# Altium schematic symbol library czc.SchLib: 152 symbols (part 1 of 2)
Pins are listed as number, name and electrical type; pins without a type are passive.

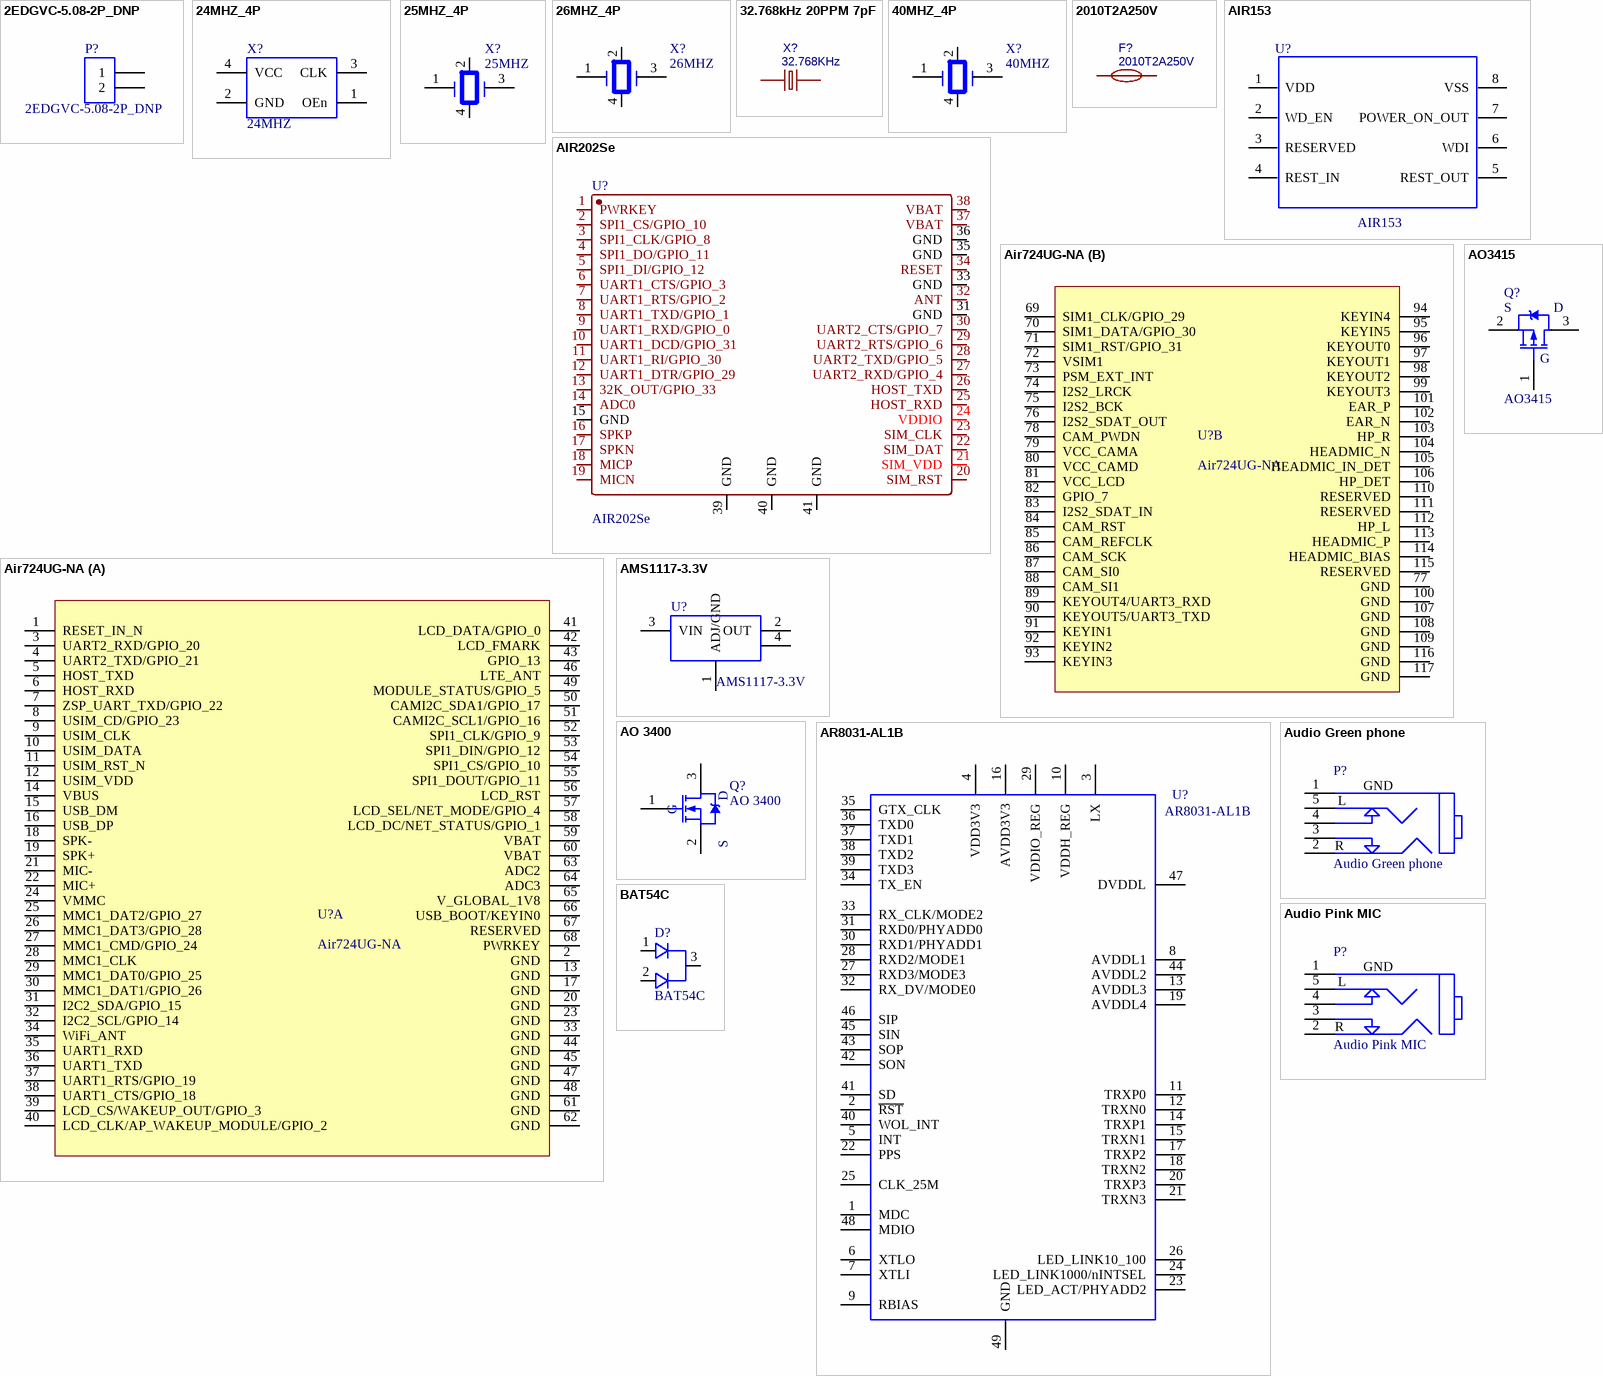
[diagram p0: symbols 2EDGVC-5.08-2P_DNP to BAT54C]

## 2EDGVC-5.08-2P_DNP
designator P?
存货编码: 1120203007; 序号: 1388; 存货名称: 接线端子座; 规格型号: KF2EDGR,2P,5.08mm,L,N; 主计量单位名称: 套; 安全库存: 15; 旧编码: 010402128; 旧规格型号: 2EDGKA立式 间距5.08MM 90度弯针 2P(KA为连接器配套头带卡头); LatestRevisionDate: 17-Jul-2002; LatestRevisionNote: Re-released for DXP Platform.; Publisher: Altium Limited; Value: 2EDGVC-5.08-2P_DNP
signal-integrity model Connector
footprint HEADER 2_5.08_L
pins: 1, 2

## 24MHZ_4P
designator X?, comment 24MHZ
存货编码: 1110601007; 序号: 3406; 存货名称: 贴装晶振; 规格型号: 有源,24MHZ,4P,32*25mm,3.3V,±20ppm; 主计量单位名称: 只; 安全库存: 36203; 旧编码: 010802061; 旧规格型号: 贴装 有源  24MHZ 4P 32*25mm 3.3V; Value: 24MHZ
footprint Crystals_3225
pins: 1 OEn, 2 GND, 3 CLK, 4 VCC

## 25MHZ_4P
designator X?, comment 25MHZ
存货编码: 1110601037; 序号: 3392; 存货名称: 贴装晶振; 规格型号: 无源,25MHZ,4P,32*25mm,±20ppm,20pf; 主计量单位名称: 只; 安全库存: 4461; 旧编码: 010802047; 旧规格型号: 贴装 无源 25MHZ 4P 32*25mm ±20ppm; Value: 25MHZ
footprint Crystals_3225
pins: 1, 2, 3, 4

## 26MHZ_4P
designator X?, comment 26MHZ
存货编码: 1110601021; 序号: 3355; 存货名称: 贴装晶振; 规格型号: 无源,24MHZ,4P,32*25mm,±20ppm,20pf; 主计量单位名称: 只; 安全库存: 17652; 旧编码: 010802010; 旧规格型号: 贴装 无源 24MHZ 4P 32*25mm ±20ppm; Value: 26MHZ
footprint Crystals_3225
pins: 1, 2, 3, 4

## 32.768kHz 20PPM 7pF
designator X?, comment 32.768KHz
BOM_Manufacturer: SEIKO; BOM_Manufacturer Part: SC-32S32.768kHz20PPM7pF; nameAlias: Frequency; BOM_Supplier: LCSC; BOM_Supplier Part: C97604; spicePre: X; spiceSymbolName: SC-32S32.768kHz20PPM7pF
footprint OSC-SMD_L3.2-W1.5
pins: 1, 2

## 40MHZ_4P
designator X?, comment 40MHZ
存货编码: 678; 存货名称: 贴装晶振; 规格型号: 无源,40MHZ,4P,32*25mm,±10ppm,15pf; Value: 40MHZ
footprint Crystals_3225
pins: 1, 2, 3, 4

## 2010T2A250V
designator F?
BOM_Manufacturer: Walter Elec; Contributor: LCSC; BOM_Supplier: LCSC; BOM_Supplier Part: C354902; BOM_Manufacturer Part: 2010T2A250V; spicePre: F; spiceSymbolName: 2010T2A250V
footprint FUSE-TH_L8.5-W4.0-P5.08-D0.6
pins: 1, 2

## AIR153
designator U?
合宙看门狗芯片; Manufacture: ELAN; PCB DECAL: EM78P153B-SOP8; Geometry.Height: 1.75mm
footprint so-8
pins: 1 VDD, 2 WD_EN, 3 RESERVED, 4 REST_IN, 5 REST_OUT, 6 WDI, 7 POWER_ON_OUT, 8 VSS

## AIR202Se
designator U?
合宙2G模块 带SIM卡
footprint AIR202S (Footprint not found)
pins: 1 PWRKEY, 2 SPI1_CS/GPIO_10, 3 SPI1_CLK/GPIO_8, 4 SPI1_DO/GPIO_11, 5 SPI1_DI/GPIO_12, 6 UART1_CTS/GPIO_3, 7 UART1_RTS/GPIO_2, 8 UART1_TXD/GPIO_1, 9 UART1_RXD/GPIO_0, 10 UART1_DCD/GPIO_31, 11 UART1_RI/GPIO_30, 12 UART1_DTR/GPIO_29, 13 32K_OUT/GPIO_33, 14 ADC0, 15 GND, 16 SPKP, 17 SPKN, 18 MICP, 19 MICN, 20 SIM_RST, 21 SIM_VDD, 22 SIM_DAT, 23 SIM_CLK, 24 VDDIO, 25 HOST_RXD, 26 HOST_TXD, 27 UART2_RXD/GPIO_4, 28 UART2_TXD/GPIO_5, 29 UART2_RTS/GPIO_6, 30 UART2_CTS/GPIO_7, 31 GND, 32 ANT, 33 GND, 34 RESET, 35 GND, 36 GND, 37 VBAT, 38 VBAT, 39 GND, 40 GND, 41 GND

## Air724UG-NA
designator U?
合宙4G模块 不带SIM卡
part A pins: 1 RESET_IN_N, 2 GND, 3 UART2_RXD/GPIO_20, 4 UART2_TXD/GPIO_21, 5 HOST_TXD, 6 HOST_RXD, 7 ZSP_UART_TXD/GPIO_22, 8 USIM_CD/GPIO_23, 9 USIM_CLK, 10 USIM_DATA, 11 USIM_RST_N, 12 USIM_VDD, 13 GND, 14 VBUS, 15 USB_DM, 16 USB_DP, 17 GND, 18 SPK-, 19 SPK+, 20 GND, 21 MIC-, 22 MIC+, 23 GND, 24 VMMC, 25 MMC1_DAT2/GPIO_27, 26 MMC1_DAT3/GPIO_28, 27 MMC1_CMD/GPIO_24, 28 MMC1_CLK, 29 MMC1_DAT0/GPIO_25, 30 MMC1_DAT1/GPIO_26, 31 I2C2_SDA/GPIO_15, 32 I2C2_SCL/GPIO_14, 33 GND, 34 WiFi_ANT, 35 UART1_RXD, 36 UART1_TXD, 37 UART1_RTS/GPIO_19, 38 UART1_CTS/GPIO_18, 39 LCD_CS/WAKEUP_OUT/GPIO_3, 40 LCD_CLK/AP_WAKEUP_MODULE/GPIO_2, 41 LCD_DATA/GPIO_0, 42 LCD_FMARK, 43 GPIO_13, 44 GND, 45 GND, 46 LTE_ANT, 47 GND, 48 GND, 49 MODULE_STATUS/GPIO_5, 50 CAMI2C_SDA1/GPIO_17, 51 CAMI2C_SCL1/GPIO_16, 52 SPI1_CLK/GPIO_9, 53 SPI1_DIN/GPIO_12, 54 SPI1_CS/GPIO_10, 55 SPI1_DOUT/GPIO_11, 56 LCD_RST, 57 LCD_SEL/NET_MODE/GPIO_4, 58 LCD_DC/NET_STATUS/GPIO_1, 59 VBAT, 60 VBAT, 61 GND, 62 GND, 63 ADC2, 64 ADC3, 65 V_GLOBAL_1V8, 66 USB_BOOT/KEYIN0, 67 RESERVED, 68 PWRKEY
part B pins: 69 SIM1_CLK/GPIO_29, 70 SIM1_DATA/GPIO_30, 71 SIM1_RST/GPIO_31, 72 VSIM1, 73 PSM_EXT_INT, 74 I2S2_LRCK, 75 I2S2_BCK, 76 I2S2_SDAT_OUT, 77 GND, 78 CAM_PWDN, 79 VCC_CAMA, 80 VCC_CAMD, 81 VCC_LCD, 82 GPIO_7, 83 I2S2_SDAT_IN, 84 CAM_RST, 85 CAM_REFCLK, 86 CAM_SCK, 87 CAM_SI0, 88 CAM_SI1, 89 KEYOUT4/UART3_RXD, 90 KEYOUT5/UART3_TXD, 91 KEYIN1, 92 KEYIN2, 93 KEYIN3, 94 KEYIN4, 95 KEYIN5, 96 KEYOUT0, 97 KEYOUT1, 98 KEYOUT2, 99 KEYOUT3, 100 GND, 101 EAR_P, 102 EAR_N, 103 HP_R, 104 HEADMIC_N, 105 HEADMIC_IN_DET, 106 HP_DET, 107 GND, 108 GND, 109 GND, 110 RESERVED, 111 RESERVED, 112 HP_L, 113 HEADMIC_P, 114 HEADMIC_BIAS, 115 RESERVED, 116 GND, 117 GND

## AMS1117-3.3V
designator U?
存货编码: 1110404008; 序号: 1933; 存货名称: 电源; 规格型号: AMS1117-3.3V,SOT223-3; 主计量单位名称: 片; 安全库存: 1453; 旧编码: 010504010; 旧规格型号: AMS1117-3.3V SOT223-3 (1A); Value: AMS1117-3.3V
footprint SOT_223
pins: 1 ADJ/GND, 2 OUT, 3 VIN, 4

## AO3415
designator Q?
Note: Pin 2 is electrically connected to pin 4.; 存货编码: 1110505002; 序号: 2657; 存货名称: 场效应管; 规格型号: AO3415,SOT-23-3,P沟道; 主计量单位名称: 只; 安全库存: 6671; 旧编码: 010605001; 旧规格型号: P沟道 AO 3415 SOT-23-3; Published: 8-Jun-2000; LatestRevisionDate: 17-Jul-2002; LatestRevisionNote: Re-released for DXP Platform.; DatasheetVersion: PD-9.814; PackageVersion: Feb-1997; PackageReference: TO-220AB; Publisher: Altium Limited; PackageDescription: TO, Thru-Hole, Vertical, Heatsink Mounted; 3 In-Line Leads; Pitch 2.54 mm; ComponentLink1Description: Manufacturer Link; ComponentLink1URL: http://www.irf.com/; VALUE: AO3415
simulation model IRF1010 (Spice Subcircuit)
footprint SOT_233_W
pins: 1 G, 2 S, 3 D

## AO 3400
designator Q?
Note: Pin 2 is electrically connected to pin 4.; 存货编码: 1110505011; 序号: 2666; 存货名称: 场效应管; 规格型号: AO3400,SOT23,N沟道; 主计量单位名称: 只; 安全库存: 1346; 旧编码: 010605010; 旧规格型号: N沟道 AO 3400 SOT23; Published: 8-Jun-2000; LatestRevisionDate: 17-Jul-2002; LatestRevisionNote: Re-released for DXP Platform.; DatasheetVersion: PD-9.814; PackageVersion: Feb-1997; PackageReference: TO-220AB; Publisher: Altium Limited; PackageDescription: TO, Thru-Hole, Vertical, Heatsink Mounted; 3 In-Line Leads; Pitch 2.54 mm; VALUE: AO 3400
simulation model IRF1010 (Spice Subcircuit)
footprint SOT_233_W
pins: 1 G, 2 S, 3 D

## AR8031-AL1B
designator U?
存货编码: 1110405175; 序号: 2382; 存货名称: 集成电路; 规格型号: AR8031-AL1B QFN48（工业级）; 主计量单位名称: 片; 安全库存: 1608.00; 旧编码: 010510051; VALUE: AR8031-AL1B; 启用日期: 2013/1/1
footprint QFN48P_0.4BSC_6*6_H(8031)
pins: 1 MDC, 2 ~{RST}, 3 LX, 4 VDD3V3, 5 INT, 6 XTLO, 7 XTLI, 8 AVDDL1, 9 RBIAS, 10 VDDH_REG, 11 TRXP0, 12 TRXN0, 13 AVDDL3, 14 TRXP1, 15 TRXN1, 16 AVDD3V3, 17 TRXP2, 18 TRXN2, 19 AVDDL4, 20 TRXP3, 21 TRXN3, 22 PPS, 23 LED_ACT/PHYADD2, 24 LED_LINK1000/nINTSEL, 25 CLK_25M, 26 LED_LINK10_100, 27 RXD3/MODE3, 28 RXD2/MODE1, 29 VDDIO_REG, 30 RXD1/PHYADD1, 31 RXD0/PHYADD0, 32 RX_DV/MODE0, 33 RX_CLK/MODE2, 34 TX_EN, 35 GTX_CLK, 36 TXD0, 37 TXD1, 38 TXD2, 39 TXD3, 40 WOL_INT, 41 SD, 42 SON, 43 SOP, 44 AVDDL2, 45 SIN, 46 SIP, 47 DVDDL, 48 MDIO, 49 GND

## Audio Green phone
designator P?
存货编码: 1120202009; 序号: 1282; 存货名称: 插装音频座; 规格型号: PJ325C,5脚,绿色; 主计量单位名称: 个; 安全库存: 278; 旧编码: 010402022; 旧规格型号: 插装  绿色 PJ325C 5脚; Value: Audio Green phone
footprint PHONEJACK SW
pins: 1 GND, 2 R, 3, 4, 5 L

## Audio Pink MIC
designator P?
存货编码: 1120202007; 序号: 1280; 存货名称: 插装音频座; 规格型号: PJ325C,5脚,粉色; 主计量单位名称: 个; 安全库存: 273; 旧编码: 010402020; 旧规格型号: 插装  粉色 PJ325C 5脚; Value: Audio Pink MIC
footprint PHONEJACK SW
pins: 1 GND, 2 R, 3, 4, 5 L

## BAT54C
designator D?
存货编码: 1110501005; 序号: 2485; 存货名称: 双肖特基二极管; 规格型号: BAT54C,SOT-23-3; 安全库存: 3634; 旧编码: 010601007; 旧规格型号: BAT54C，SOT-23-3; Value: BAT54C
footprint SOT_233_N
pins: 1, 2, 3

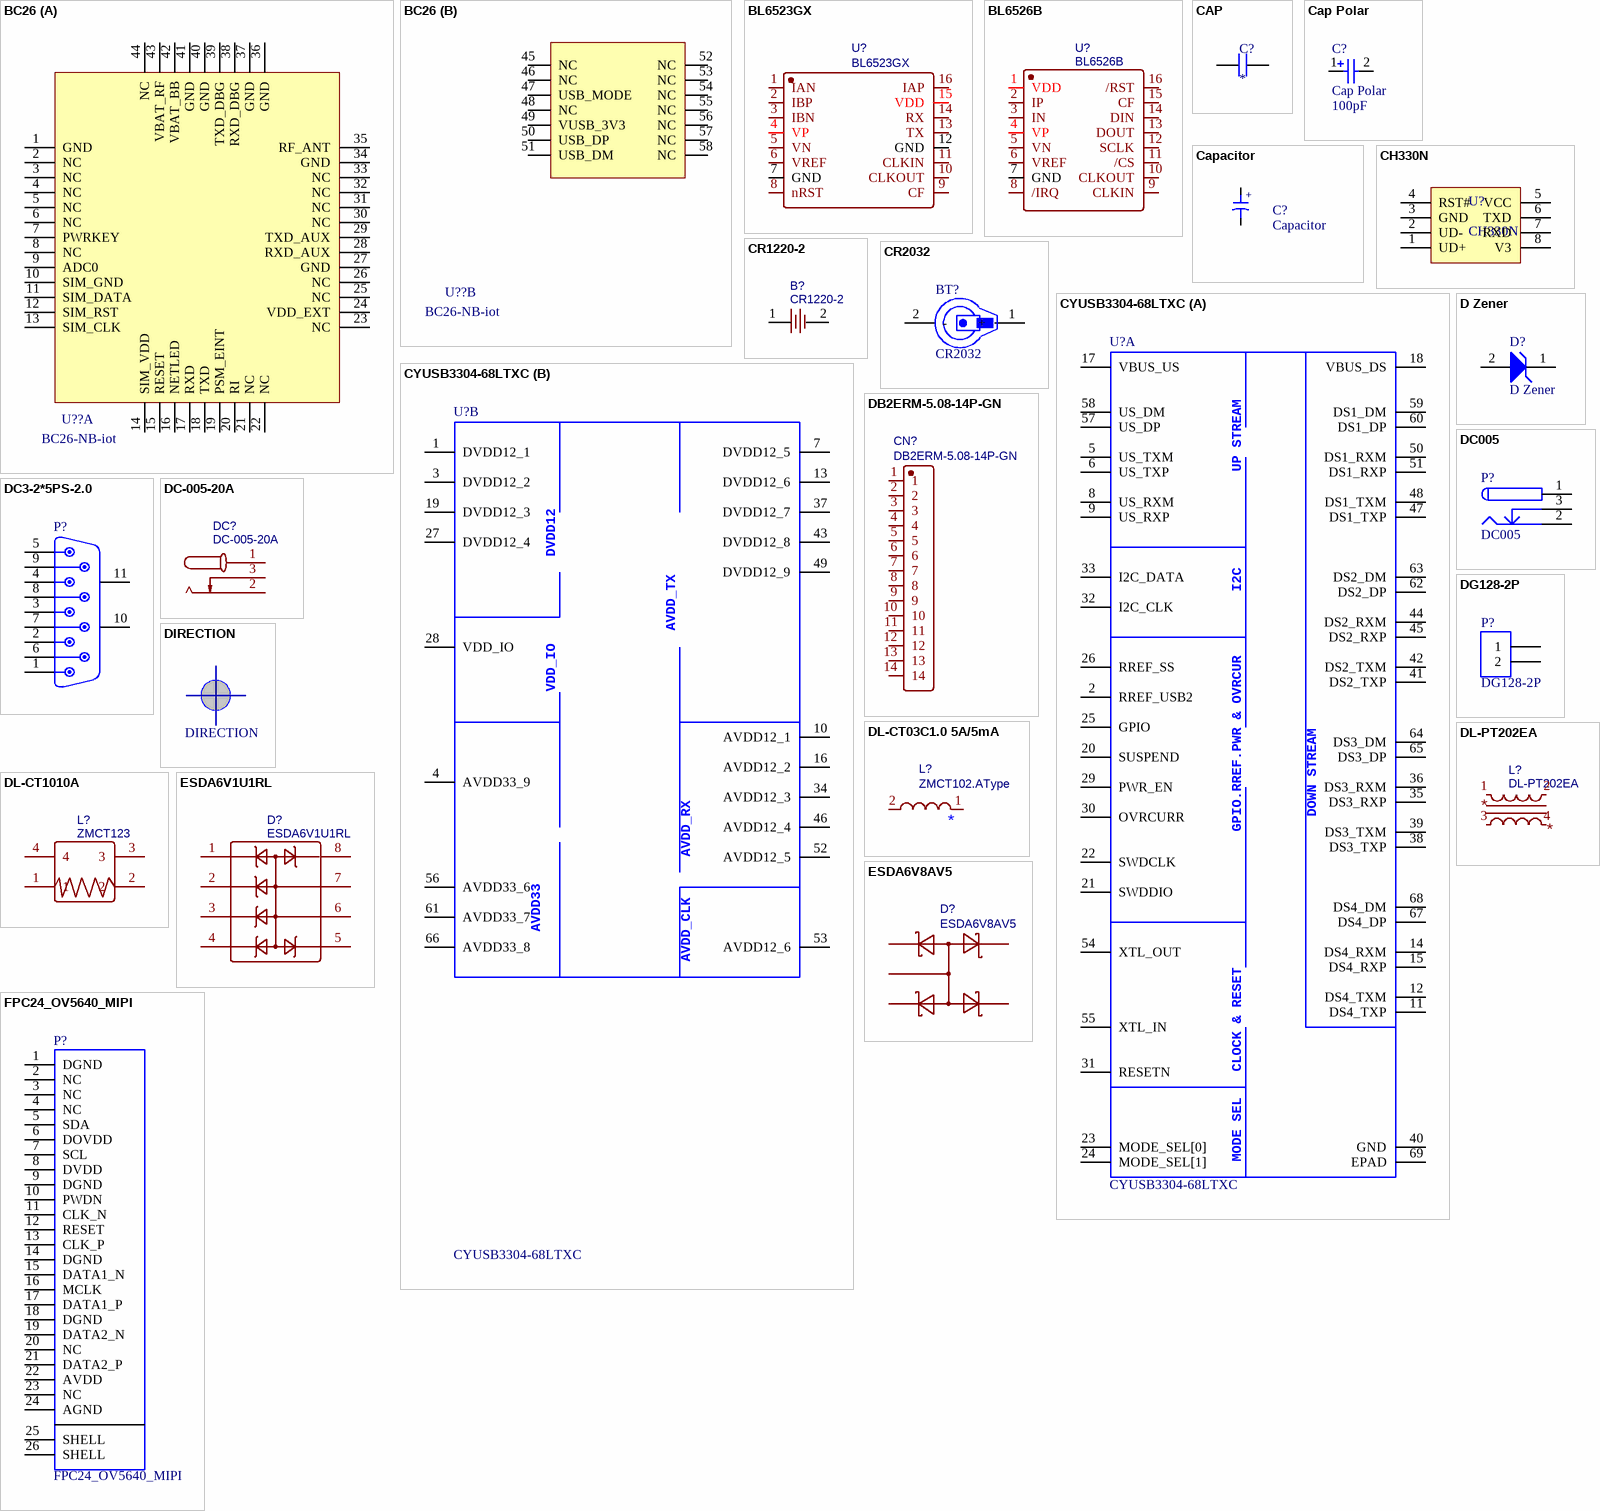
[diagram p1: symbols BC26 to FPC24_OV5640_MIPI]

## BC26
designator U??, comment BC26-NB-iot
footprint BC26
part A pins: 1 GND, 2 NC, 3 NC, 4 NC, 5 NC, 6 NC, 7 PWRKEY, 8 NC, 9 ADC0, 10 SIM_GND, 11 SIM_DATA, 12 SIM_RST, 13 SIM_CLK, 14 SIM_VDD, 15 RESET, 16 NETLED, 17 RXD, 18 TXD, 19 PSM_EINT, 20 RI, 21 NC, 22 NC, 23 NC, 24 VDD_EXT, 25 NC, 26 NC, 27 GND, 28 RXD_AUX, 29 TXD_AUX, 30 NC, 31 NC, 32 NC, 33 NC, 34 GND, 35 RF_ANT, 36 GND, 37 GND, 38 RXD_DBG, 39 TXD_DBG, 40 GND, 41 GND, 42 VBAT_BB, 43 VBAT_RF, 44 NC
part B pins: 45 NC, 46 NC, 47 USB_MODE, 48 NC, 49 VUSB_3V3, 50 USB_DP, 51 USB_DM, 52 NC, 53 NC, 54 NC, 55 NC, 56 NC, 57 NC, 58 NC

## BL6523GX
designator U?
BOM_Manufacturer: Shanghai Belling; Contributor: LCSC; SMT Type: Extend; BOM_Supplier: LCSC; BOM_Supplier Part: C213392; BOM_Manufacturer Part: BL6523GX; BOM_JLCPCB SMD: Yes; spicePre: U; spiceSymbolName: BL6523GX
footprint SOP-16_L10.3-W5.4-P1.27-LS7.8-BL
pins: 1 IAN, 2 IBP, 3 IBN, 4 VP, 5 VN, 6 VREF, 7 GND, 8 nRST, 9 CF, 10 CLKOUT, 11 CLKIN, 12 GND, 13 TX, 14 RX, 15 VDD, 16 IAP

## BL6526B
designator U?
BOM_Manufacturer: BL; Contributor: LCSC; SMT Type: Extend; BOM_Supplier: LCSC; BOM_Manufacturer Part: BL6526B; BOM_Supplier Part: C177781; BOM_LCSC Assembly: Yes; spicePre: U; spiceSymbolName: BL6526B
footprint SOP-16_L10.0-W3.9-P1.27-LS6.0-BL
pins: 1 VDD, 2 IP, 3 IN, 4 VP, 5 VN, 6 VREF, 7 GND, 8 /IRQ, 9 CLKIN, 10 CLKOUT, 11 /CS, 12 SCLK, 13 DOUT, 14 DIN, 15 CF, 16 /RST

## CAP
designator C?
电容
pins: 1, 2

## Cap Polar
designator C?  value 100pF
极性电容; Published: 8-Jun-2000; LatestRevisionDate: 17-Jul-2002; LatestRevisionNote: Re-released for DXP Platform.; PackageReference: RB7.6-15; Publisher: Altium Limited; PackageDescription: Polarized Capacitor (Radial); 2 Leads
footprint RB7.6-15 (Polarized Capacitor (Radial); 2 Leads)
simulation model CAP (Capacitor)
signal-integrity model Cap Pol
pins: 1, 2
1 alternate drawing of the same symbol

## Capacitor
designator C?
电解电容
pins: 1, 2
text: +

## CH330N
designator U?
串口转USB芯片
pins: 1 UD+, 2 UD-, 3 GND, 4 RST#, 5 VCC, 6 TXD, 7 RXD, 8 V3

## CR1220-2
designator B?
BOM_Manufacturer: Q&J; BOM_Supplier: LCSC; BOM_Manufacturer Part: CR1220-2; image: //image.lceda.cn/szlcsc/C70381.jpg; BOM_Supplier Part: C70381; spicePre: B; spiceSymbolName: CR1220-2
footprint BAT-SMD_CR1220-2
pins: 1, 2

## CR2032
designator BT?
存货编码: 1120202003; 序号: 1158; 存货名称: 插装电池座; 规格型号: CR2032-BS-2-1; 安全库存: 1051; 旧编码: 010401038; 旧规格型号: 插装 CR2032 BS-2-1; Value: CR2032
footprint BAT_CR2032
pins: 1 +, 2 -

## CYUSB3304-68LTXC
designator U?
footprint QFN40P800X800X100_HS-69N (QFN, 68-Leads, Body 8.00x8.00mm, Pitch 0.40mm, Thermal Pad 5.10x5.10mm, IPC Medium Density)
part A pins: 2 RREF_USB2, 5 US_TXM, 6 US_TXP, 8 US_RXM, 9 US_RXP, 11 DS4_TXP, 12 DS4_TXM, 14 DS4_RXM, 15 DS4_RXP, 17 VBUS_US, 18 VBUS_DS, 20 SUSPEND, 21 SWDDIO, 22 SWDCLK, 23 MODE_SEL[0], 24 MODE_SEL[1], 25 GPIO, 26 RREF_SS, 29 PWR_EN, 30 OVRCURR, 31 RESETN, 32 I2C_CLK, 33 I2C_DATA, 35 DS3_RXP, 36 DS3_RXM, 38 DS3_TXP, 39 DS3_TXM, 40 GND, 41 DS2_TXP, 42 DS2_TXM, 44 DS2_RXM, 45 DS2_RXP, 47 DS1_TXP, 48 DS1_TXM, 50 DS1_RXM, 51 DS1_RXP, 54 XTL_OUT, 55 XTL_IN, 57 US_DP, 58 US_DM, 59 DS1_DM, 60 DS1_DP, 62 DS2_DP, 63 DS2_DM, 64 DS3_DM, 65 DS3_DP, 67 DS4_DP, 68 DS4_DM, 69 EPAD
part B pins: 1 DVDD12_1, 3 DVDD12_2, 4 AVDD33_9, 7 DVDD12_5, 10 AVDD12_1, 13 DVDD12_6, 16 AVDD12_2, 19 DVDD12_3, 27 DVDD12_4, 28 VDD_IO, 34 AVDD12_3, 37 DVDD12_7, 43 DVDD12_8, 46 AVDD12_4, 49 DVDD12_9, 52 AVDD12_5, 53 AVDD12_6, 56 AVDD33_6, 61 AVDD33_7, 66 AVDD33_8
part A text: UP STREAM; I2C; DOWN STREAM; GPIO.RREF.PWR & OVRCUR; CLOCK & RESET; MODE SEL
part B text: DVDD12; AVDD_TX; AVDD_RX; AVDD33; AVDD_CLK

## D Zener
designator D?
稳压二极管; Published: 8-Jun-2000; LatestRevisionDate: 17-Jul-2002; LatestRevisionNote: Re-released for DXP Platform.; PackageReference: DIODE-0.7; Publisher: Altium Limited; PackageDescription: Diode, Thru-Hole; 2 Leads; 0.7 in Pin Spacing
footprint DIODE-0.7 (Diode, Thru-Hole; 2 Leads; 0.7 in Pin Spacing)
simulation model ZENER (Diode)
signal-integrity model D Zener
pins: 1, 2

## DB2ERM-5.08-14P-GN
designator CN?
BOM_Manufacturer: DIBO; Contributor: LCSC; BOM_Supplier: LCSC; BOM_Supplier Part: C430534; BOM_Manufacturer Part: DB2ERM-5.08-14P-GN; BOM_JLCPCB Part Class: Extended Part; spicePre: C; spiceSymbolName: DB2ERM-5.08-14P-GN
footprint CONN-TH_14P-P5.08_DB2ERM-5.08-14P-GN
pins: 1, 2, 3, 4, 5, 6, 7, 8, 9, 10, 11, 12, 13, 14

## DC3-2*5PS-2.0
designator P?, comment DB9 male  (value not drawn)
PackageDocument: O; Positions: 9; Gender: Receptacle; 存货编码: 1120202016; 序号: 1291; 存货名称: 插装串口座; 规格型号: DB9,公座,单层,黑色; 安全库存: 552; 旧编码: 010402031; 旧规格型号: DB9，公头，单层，黑色; Published: 15-Jun-2001; LatestRevisionDate: 17-Jul-2002; LatestRevisionNote: Re-released for DXP Platform.; DatasheetDocument: 1-Sep-1999; PackageReference: 788750; Publisher: Altium Limited; Orientation: Right Angle; Value: DB9 male
signal-integrity model Connector
footprint DB9_MALE
pins: 1, 2, 3, 4, 5, 6, 7, 8, 9, 10 MH1, 11 MH2

## DC005
designator P?
存货编码: 1120202010; 序号: 1283; 存货名称: 插装电源座; 规格型号: DC005,2.1mm,耐高温; 安全库存: 1009; 旧编码: 010402023; 旧规格型号: 插装 DC005 2.1mm 耐高温; Value: DC005
footprint JACK_2.5MM_B
pins: 1 ADJ, 2 ADJ, 3 ADJ

## DC-005-20A
designator DC?
BOM_Manufacturer: HRO; Contributor: LCSC; BOM_Supplier: LCSC; BOM_Manufacturer Part: DC-005-20A; BOM_Supplier Part: C130239; spicePre: D; spiceSymbolName: DC-005-20A
footprint DC-IN-TH_DC005
pins: 1, 2, 3

## DG128-2P
designator P?
存货编码: 1120203002; 序号: 1300; 存货名称: 接线端子; 规格型号: G128,2p,5mm,绿色; 主计量单位名称: 个; 安全库存: 127; 旧编码: 010402040; 旧规格型号: 5mm，2p，G128，绿色; LatestRevisionDate: 17-Jul-2002; LatestRevisionNote: Re-released for DXP Platform.; Publisher: Altium Limited; Value: DG128-2P
signal-integrity model Connector
footprint HEADER 2_5.0_DG128
pins: 1, 2

## DIRECTION
designator M?
序号: 34; 存货编码: 0; 旧编码: MHOLE; Value: DIRECTION; 安全库存: 0
footprint MARK_DIRECTION

## DL-CT03C1.0 5A/5mA
designator L?, comment ZMCT102.AType
BOM_Manufacturer: ZEMING; nameAlias: Value; SMT Type: Extend; BOM_Supplier: LCSC; BOM_Manufacturer Part: ZMCT102; BOM_Supplier Part: C84213; BOM_JLCPCB SMD: Yes; spicePre: L; spiceSymbolName: ZMCT102
footprint XFMR-TH_ZMCT102
pins: 1, 2

## DL-CT1010A
designator L?, comment ZMCT123
BOM_Manufacturer: ZEMING; Contributor: LCSC; SMT Type: Extend; BOM_Supplier: LCSC; BOM_Manufacturer Part: ZMCT123; BOM_Supplier Part: C155201; BOM_JLCPCB SMD: Yes; spicePre: L; spiceSymbolName: ZMCT123
footprint XFMR-TH_ZMCT123
pins: 1, 2, 3, 4

## DL-PT202EA
designator L?
BOM_Manufacturer: ZEMING; BOM_Manufacturer Part: ZMPT107-1; nameAlias: Value; BOM_Supplier: LCSC; BOM_Supplier Part: C125191; spicePre: L; spiceSymbolName: ZMPT107-1
footprint XFMR-TH_ZMPT107-1
pins: 1, 2, 3, 4

## ESDA6V1U1RL
designator D?
BOM_Manufacturer: STMicroelectronics; Contributor: LCSC; SMT Type: Extend; BOM_Supplier: LCSC; BOM_Manufacturer Part: ESDA6V1U1RL; BOM_Supplier Part: C118278; BOM_LCSC Assembly: Yes; spicePre: D; spiceSymbolName: ESDA6V1U1RL
footprint SO-8_L4.9-W3.9-P1.27-LS5.9-BL
pins: 1 I/O1, 2 I/O2, 3 I/O3, 4 I/O4, 5 I/O5, 6 GND, 7 GND, 8 I/O6

## ESDA6V8AV5
designator D?
BOM_Manufacturer: Will Semicon; Contributor: LCSC; BOM_Paste Type: expand; BOM_Assembly Type: smtWeld; BOM_Supplier: LCSC; BOM_Supplier Part: C268741; BOM_Manufacturer Part: ESDA6V8AV5; spicePre: D; spiceSymbolName: ESDA6V8AV5
footprint SOT-553-5_L1.6-W1.2-P0.50-LS1.6-BR
pins: 1 I/O1, 2 GND, 3 I/O2, 4 I/O3, 5 I/O4

## FPC24_OV5640_MIPI
designator P?
010401010; 序号: 50; 存货编码: 1120103007; 存货名称: FPC座; 规格型号: 24P,0.5mm,下接翻盖; 安全库存: 152.00; Value: FPC24_OV5640_MIPI; 旧编码: 010401010
footprint FPC24
pins: 1 DGND, 2 NC, 3 NC, 4 NC, 5 SDA, 6 DOVDD, 7 SCL, 8 DVDD, 9 DGND, 10 PWDN, 11 CLK_N, 12 RESET, 13 CLK_P, 14 DGND, 15 DATA1_N, 16 MCLK, 17 DATA1_P, 18 DGND, 19 DATA2_N, 20 NC, 21 DATA2_P, 22 AVDD, 23 NC, 24 AGND, 25 SHELL, 26 SHELL

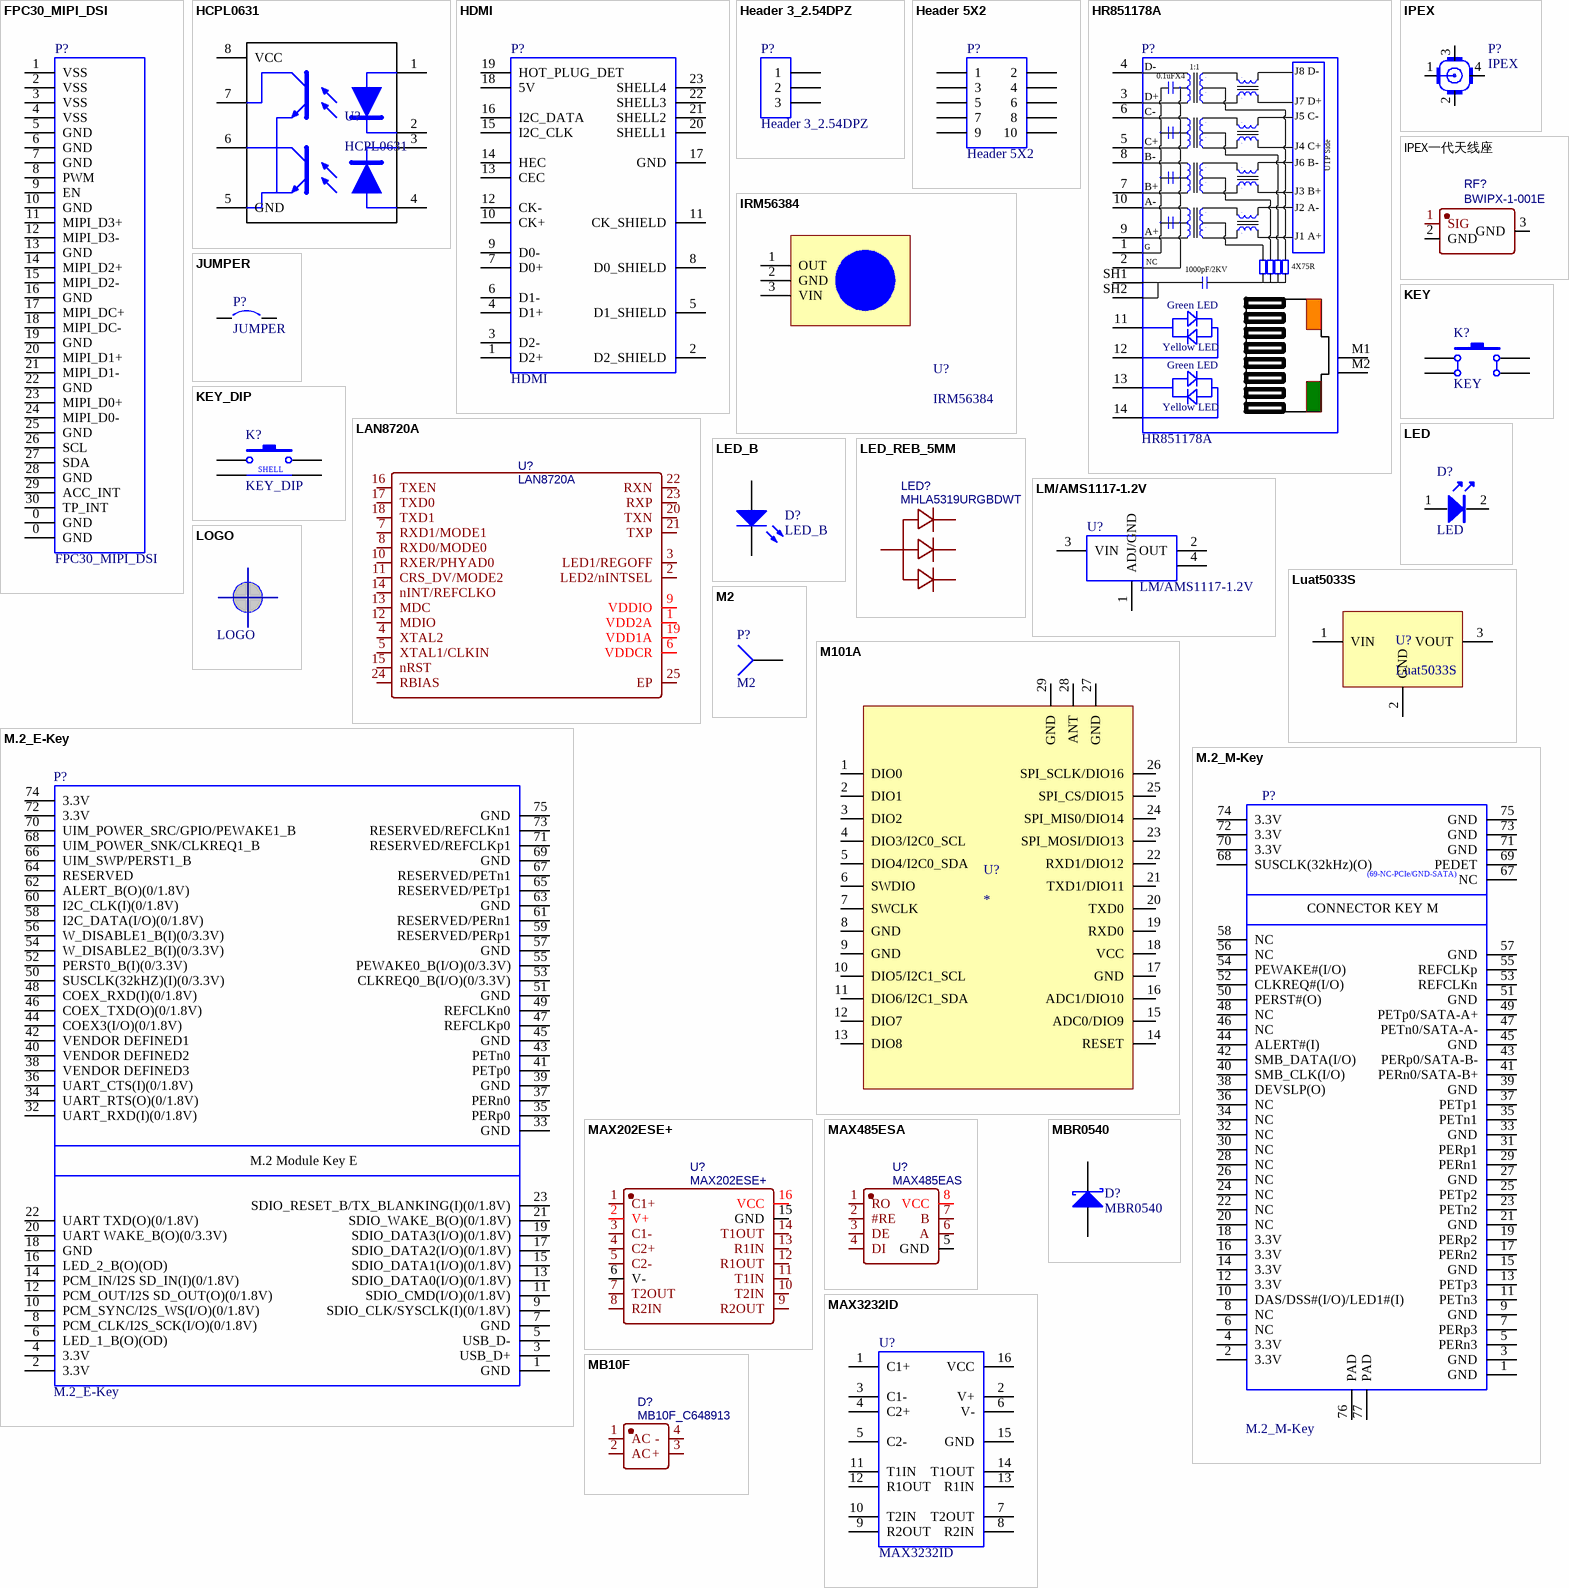
[diagram p2: symbols FPC30_MIPI_DSI to MBR0540]

## FPC30_MIPI_DSI
designator P?
010401065; 序号: 53; 存货编码: 1120103013; 存货名称: FPC座; 规格型号: 30P,0.5mm,下接翻盖; 安全库存: 390.00; Value: FPC30_MIPI_DSI; 旧编码: 010401065
footprint FPC30
pins: 0 GND, 0 GND, 1 VSS, 2 VSS, 3 VSS, 4 VSS, 5 GND, 6 GND, 7 GND, 8 PWM, 9 EN, 10 GND, 11 MIPI_D3+, 12 MIPI_D3-, 13 GND, 14 MIPI_D2+, 15 MIPI_D2-, 16 GND, 17 MIPI_DC+, 18 MIPI_DC-, 19 GND, 20 MIPI_D1+, 21 MIPI_D1-, 22 GND, 23 MIPI_D0+, 24 MIPI_D0-, 25 GND, 26 SCL, 27 SDA, 28 GND, 29 ACC_INT, 30 TP_INT

## HCPL0631
designator U?
光耦
pins: 1, 2, 3, 4, 5 GND, 6, 7, 8 VCC

## HDMI
designator P?
存货编码: 1120202041; 序号: 1427; 存货名称: 插装HDMI座; 规格型号: A型; 描述栏信息: FCI生产编号：10029449,001RLF / ，与1120202030通用; 主计量单位名称: 个; 安全库存: 313; 旧编码: 010402167; 旧规格型号: A型 FCI生产编号：10029449-001RLF; Value: HDMI
footprint HDMI
pins: 1 D2+, 2 D2_SHIELD, 3 D2-, 4 D1+, 5 D1_SHIELD, 6 D1-, 7 D0+, 8 D0_SHIELD, 9 D0-, 10 CK+, 11 CK_SHIELD, 12 CK-, 13 CEC, 14 HEC, 15 I2C_CLK, 16 I2C_DATA, 17 GND, 18 5V, 19 HOT_PLUG_DET, 20 SHELL1, 21 SHELL2, 22 SHELL3, 23 SHELL4

## Header 3_2.54DPZ
designator P?
序号: 40; 存货编码: 1120201017; 存货名称: 插装插针; 规格型号: 单排,40P,2.54mm,S,方针; 安全库存: 260.35; 旧编码: 010402011; LatestRevisionDate: 17-Jul-2002; LatestRevisionNote: Re-released for DXP Platform.; Publisher: Altium Limited; Value: Header 3_2.54DPZ
signal-integrity model Connector
footprint HEADER 3_2.54_DPZ
pins: 1, 2, 3

## Header 5X2
designator P?
存货编码: 1120101022; 序号: 1257; 存货名称: 贴装插针; 规格型号: 双排,2*5P,1.27mm间距; 安全库存: 150; 旧编码: 010401148; 旧规格型号: 贴装 2*5Pin 排针 1.27mm间距; LatestRevisionDate: 17-Jul-2002; LatestRevisionNote: Re-released for DXP Platform.; Publisher: Altium Limited; Value: Header 5X2
signal-integrity model Connector
footprint HEADER5*2_1.27_SPZ_SMT
pins: 1, 2, 3, 4, 5, 6, 7, 8, 9, 10

## HR851178A
designator P?
存货编码: 1120202071; 序号: 1656; 存货名称: 插装网口座; 规格型号: HR851178A,RJ45,1000M,带灯,带变压器,无外围弹片; 主计量单位名称: 个; 安全库存: 112; 旧编码: 010402406; 旧规格型号: HR851178A RJ45 1000M 带灯 有变压器 无外围弹片; VALUE: HR851178A
footprint RJ45_Gigabit
pins: 1 GND, 2 NC, 3 D+, 4 D-, 5 C+, 6 C-, 7 B+, 8 B-, 9 A+, 10 A-, 11, 12, 13, 14, M1, M2, SH1, SH2
text: 1:1; 0.1uFX4; J8 D-; J7 D+; J5 C-; J4 C+; J6 B-; UTP Side; J3 B+; J2 A-; J1 A+; G; 1000pF/2KV; 4X75R; Green LED; Yellow LED

## IPEX
designator P?
存货编码: 1120102016; 序号: 1197; 存货名称: 贴装IPEX座; 主计量单位名称: 个; 安全库存: 108; 旧编码: 010401077; LatestRevisionDate: 17-Jul-2002; LatestRevisionNote: Re-released for DXP Platform.; Publisher: Altium Limited; 规格型号: IPEX; Value: IPEX; 旧规格型号: IPEX
signal-integrity model Connector
footprint IPEX
pins: 1 RF, 2, 3, 4

## IPEX一代天线座
designator RF?, comment BWIPX-1-001E
BOM_Manufacturer: BAT WIRELESS(蝙蝠无线); Contributor: LCSC; BOM_Paste Type: expand; BOM_Assembly Type: smtWeld; BOM_Supplier: LCSC; BOM_Supplier Part: C496552; BOM_Manufacturer Part: BWIPX-1-001E; spicePre: R; spiceSymbolName: BWIPX-1-001E
footprint IPEX-SMD_BWIPX-1-001E
pins: 1 SIG, 2 GND, 3 GND

## IRM56384
designator U?
红外接收模块
pins: 1 OUT, 2 GND, 3 VIN

## JUMPER
designator P?
序号: 62; 存货编码: 1120201028; 存货名称: 插装插针; 规格型号: 单排,40P,2.0mm,S; 旧编码: 010402061; Published: 24-Mar-1999; LatestRevisionDate: 17-Jul-2002; LatestRevisionNote: Re-released for DXP Platform.; PackageReference: SPST-2; Publisher: Altium Limited; PackageDescription: Switch; 2 Leads; Value: JUMPER
footprint HEADER 2_2.0_DPZ
pins: 1, 2

## KEY
designator K?
存货编码: 1120105006; 序号: 3475; 存货名称: 贴装按键开关; 规格型号: DTSM-62N-V-T/R,4P,6*6*5mm,棕色; 主计量单位名称: 个; 安全库存: 161; 旧编码: 010901015; 旧规格型号: 贴装 4P 棕色(DTSM-62N-V-T/R 6*6*5mm); Published: 24-Mar-1999; LatestRevisionDate: 17-Jul-2002; LatestRevisionNote: Re-released for DXP Platform.; PackageReference: SPST-2; Publisher: Altium Limited; PackageDescription: Switch; 2 Leads; Value: KEY
footprint SW_6X6_SMT
pins: 1, 2, 3, 4

## KEY_DIP
designator K?
存货编码: 1120204014; 序号: 3500; 存货名称: 插装按键开关; 规格型号: 6*6*6mm,侧位; 安全库存: 3204; 旧编码: 010901040; 旧规格型号: 侧位 插装 6*6*6; Published: 24-Mar-1999; LatestRevisionDate: 17-Jul-2002; LatestRevisionNote: Re-released for DXP Platform.; PackageReference: SPST-2; Publisher: Altium Limited; value: KEY_DIP
footprint SW_6*6_DIP
pins: 1, 2, 3, 3
text: SHELL

## LAN8720A
designator U?
BOM_Manufacturer: SMSC; BOM_Manufacturer Part: LAN8720AI-CP-TR; SMT Type: Extend; BOM_Supplier: LCSC; image: //image.lceda.cn/szlcsc/C17146.jpg; BOM_Supplier Part: C17146; BOM_LCSC Assembly: Yes; spicePre: U; spiceSymbolName: LAN8720AI-CP-TR
footprint QFN-24_L4.0-W4.0-P0.50-BL-EP2.6
pins: 1 VDD2A, 2 LED2/nINTSEL, 3 LED1/REGOFF, 4 XTAL2, 5 XTAL1/CLKIN, 6 VDDCR, 7 RXD1/MODE1, 8 RXD0/MODE0, 9 VDDIO, 10 RXER/PHYAD0, 11 CRS_DV/MODE2, 12 MDIO, 13 MDC, 14 nINT/REFCLKO, 15 nRST, 16 TXEN, 17 TXD0, 18 TXD1, 19 VDD1A, 20 TXN, 21 TXP, 22 RXN, 23 RXP, 24 RBIAS, 25 EP

## LED
designator D?
LED灯
footprint LEDD3
pins: 1, 2

## LED_B
designator D?
存货编码: 1110504008; 序号: 2633; 存货名称: 贴装发光二极管; 规格型号: 0805,透明,正蓝发光,普通亮度; 主计量单位名称: 只; 安全库存: 988; 旧编码: 010604009; 旧规格型号: 透明 贴装 0805 正蓝发光 普通亮度; Published: 8-Jun-2000; LatestRevisionDate: 17-Jul-2002; LatestRevisionNote: Re-released for DXP Platform.; PackageVersion: Feb-2002; PackageReference: 3.2X1.6X1.1; Publisher: Altium Limited; PackageDescription: SM LED; 2 Flat Leads; Value: LED_B
simulation model LED2 (Diode)
footprint 0805LED_B
pins: 1 A, 2 K

## LED_REB_5MM
designator LED?, comment MHLA5319URGBDWT
BOM_Manufacturer: MEIHUA; Contributor: LCSC; SMT Type: Extend; BOM_Supplier: LCSC; BOM_Supplier Part: C417349; BOM_Manufacturer Part: MHLA5319URGBDWT; BOM_JLCPCB SMD: Yes; spicePre: L; spiceSymbolName: MHLA5319URGBDWT
footprint LED-TH_4P-BD6.9-P1.27-R
pins: 1 -, 2 +, 3 -, 4 -

## LM/AMS1117-1.2V
designator U?
存货编码: 1110404007; 序号: 1932; 存货名称: 电源; 规格型号: LM/AMS1117-1.2V,SOT223-3; 主计量单位名称: 片; 安全库存: 52; 旧编码: 010504009; 旧规格型号: LM/AMS1117-1.2V SOT223-3; Value: LM/AMS1117-1.2V
footprint SOT_223
pins: 1 ADJ/GND, 2 OUT, 3 VIN, 4

## LOGO
designator M?
序号: 36; 存货编码: 0; 旧编码: MHOLE; Value: LOGO; 安全库存: 0
footprint LOGO

## Luat5033S
designator U?
合宙电源模块
pins: 1 VIN, 2 GND, 3 VOUT

## M2
designator P?
存货编码: 1150303024; 序号: 4213; 存货名称: 贴片螺母; 规格型号: M2mm,长2mm,配套螺丝M2*4mm; 主计量单位名称: 个; 安全库存: 127; 旧编码: 01100517; 旧规格型号: M2 长2mm(配套螺丝M2*4); LatestRevisionDate: 17-Jul-2002; LatestRevisionNote: Re-released for DXP Platform.; Publisher: Altium Limited; Value: M2
signal-integrity model Connector
footprint HOLE3.6-5.6
pins: 1

## M101A
designator U?
pins: 1 DIO0, 2 DIO1, 3 DIO2, 4 DIO3/I2C0_SCL, 5 DIO4/I2C0_SDA, 6 SWDIO, 7 SWCLK, 8 GND, 9 GND, 10 DIO5/I2C1_SCL, 11 DIO6/I2C1_SDA, 12 DIO7, 13 DIO8, 14 RESET, 15 ADC0/DIO9, 16 ADC1/DIO10, 17 GND, 18 VCC, 19 RXD0, 20 TXD0, 21 TXD1/DIO11, 22 RXD1/DIO12, 23 SPI_MOSI/DIO13, 24 SPI_MIS0/DIO14, 25 SPI_CS/DIO15, 26 SPI_SCLK/DIO16, 27 GND, 28 ANT, 29 GND

## M.2_E-Key
designator P?
存货编码: 1120201188; 存货名称: 插槽; 规格型号: M.2,0.5PITCH, H3,KEY E; Value: M.2_E-Key
footprint M.2_E-Key
pins: 1 GND, 2 3.3V, 3 USB_D+, 4 3.3V, 5 USB_D-, 6 LED_1_B(O)(OD), 7 GND, 8 PCM_CLK/I2S_SCK(I/O)(0/1.8V), 9 SDIO_CLK/SYSCLK(I)(0/1.8V), 10 PCM_SYNC/I2S_WS(I/O)(0/1.8V), 11 SDIO_CMD(I/O)(0/1.8V), 12 PCM_OUT/I2S SD_OUT(O)(0/1.8V), 13 SDIO_DATA0(I/O)(0/1.8V), 14 PCM_IN/I2S SD_IN(I)(0/1.8V), 15 SDIO_DATA1(I/O)(0/1.8V), 16 LED_2_B(O)(OD), 17 SDIO_DATA2(I/O)(0/1.8V), 18 GND, 19 SDIO_DATA3(I/O)(0/1.8V), 20 UART WAKE_B(O)(0/3.3V), 21 SDIO_WAKE_B(O)(0/1.8V), 22 UART TXD(O)(0/1.8V), 23 SDIO_RESET_B/TX_BLANKING(I)(0/1.8V), 32 UART_RXD(I)(0/1.8V), 33 GND, 34 UART_RTS(O)(0/1.8V), 35 PERp0, 36 UART_CTS(I)(0/1.8V), 37 PERn0, 38 VENDOR DEFINED3, 39 GND, 40 VENDOR DEFINED2, 41 PETp0, 42 VENDOR DEFINED1, 43 PETn0, 44 COEX3(I/O)(0/1.8V), 45 GND, 46 COEX_TXD(O)(0/1.8V), 47 REFCLKp0, 48 COEX_RXD(I)(0/1.8V), 49 REFCLKn0, 50 SUSCLK(32kHZ)(I)(0/3.3V), 51 GND, 52 PERST0_B(I)(0/3.3V), 53 CLKREQ0_B(I/O)(0/3.3V), 54 W_DISABLE2_B(I)(0/3.3V), 55 PEWAKE0_B(I/O)(0/3.3V), 56 W_DISABLE1_B(I)(0/3.3V), 57 GND, 58 I2C_DATA(I/O)(0/1.8V), 59 RESERVED/PERp1, 60 I2C_CLK(I)(0/1.8V), 61 RESERVED/PERn1, 62 ALERT_B(O)(0/1.8V), 63 GND, 64 RESERVED, 65 RESERVED/PETp1, 66 UIM_SWP/PERST1_B, 67 RESERVED/PETn1, 68 UIM_POWER_SNK/CLKREQ1_B, 69 GND, 70 UIM_POWER_SRC/GPIO/PEWAKE1_B, 71 RESERVED/REFCLKp1, 72 3.3V, 73 RESERVED/REFCLKn1, 74 3.3V, 75 GND
text: M.2 Module Key E

## M.2_M-Key
designator P?
存货编码: 1120201185; 存货名称: M.2插槽; 规格型号: 0.5PITCH,M.2, H4.2,KEY M; Value: M.2_M-Key
footprint M.2_M-Key
pins: 1 GND, 2 3.3V, 3 GND, 4 3.3V, 5 PERn3, 6 NC, 7 PERp3, 8 NC, 9 GND, 10 DAS/DSS#(I/O)/LED1#(I), 11 PETn3, 12 3.3V, 13 PETp3, 14 3.3V, 15 GND, 16 3.3V, 17 PERn2, 18 3.3V, 19 PERp2, 20 NC, 21 GND, 22 NC, 23 PETn2, 24 NC, 25 PETp2, 26 NC, 27 GND, 28 NC, 29 PERn1, 30 NC, 31 PERp1, 32 NC, 33 GND, 34 NC, 35 PETn1, 36 NC, 37 PETp1, 38 DEVSLP(O), 39 GND, 40 SMB_CLK(I/O), 41 PERn0/SATA-B+, 42 SMB_DATA(I/O), 43 PERp0/SATA-B-, 44 ALERT#(I), 45 GND, 46 NC, 47 PETn0/SATA-A-, 48 NC, 49 PETp0/SATA-A+, 50 PERST#(O), 51 GND, 52 CLKREQ#(I/O), 53 REFCLKn, 54 PEWAKE#(I/O), 55 REFCLKp, 56 NC, 57 GND, 58 NC, 67 NC, 68 SUSCLK(32kHz)(O), 69 PEDET, 70 3.3V, 71 GND, 72 3.3V, 73 GND, 74 3.3V, 75 GND, 76 PAD, 77 PAD
text: (69-NC-PCIe/GND-SATA); CONNECTOR KEY M

## MAX202ESE+
designator U?
BOM_Manufacturer: Maxim Integrated; Contributor: LCSC; BOM_Supplier: LCSC; BOM_Supplier Part: C143388; BOM_Manufacturer Part: MAX202ESE+; spicePre: U; spiceSymbolName: MAX202ESE+
footprint SO-16_L9.9-W3.9-P1.27-LS6.0-BL
pins: 1 C1+, 2 V+, 3 C1-, 4 C2+, 5 C2-, 6 V-, 7 T2OUT, 8 R2IN, 9 R2OUT, 10 T2IN, 11 T1IN, 12 R1OUT, 13 R1IN, 14 T1OUT, 15 GND, 16 VCC

## MAX485ESA
designator U?, comment MAX485EAS
BOM_Manufacturer: UMW(Youtai Semiconductor Co., Ltd.); Contributor: LCSC; BOM_Supplier: LCSC; BOM_Supplier Part: C668206; BOM_Manufacturer Part: MAX485EAS; spicePre: U; spiceSymbolName: MAX485EAS
footprint SOP-8_L5.0-W4.0-P1.27-LS6.0-BL
pins: 1 RO, 2 #RE, 3 DE, 4 DI, 5 GND, 6 A, 7 B, 8 VCC

## MAX3232ID
designator U?
存货编码: 1110405082; 序号: 2180; 存货名称: 常规IC; 规格型号: MAX3232ID,SOIC-16; 安全库存: 2518; 旧编码: 010505068; 旧规格型号: MAX3232ID SOIC-16; Value: MAX3232ID
footprint SOP16_1.27
pins: 1 C1+, 2 V+, 3 C1-, 4 C2+, 5 C2-, 6 V-, 7 T2OUT, 8 R2IN, 9 R2OUT, 10 T2IN, 11 T1IN, 12 R1OUT, 13 R1IN, 14 T1OUT, 15 GND, 16 VCC

## MB10F
designator D?, comment MB10F_C648913
BOM_Manufacturer: FMS(Formosa Microsemi); BOM_Manufacturer Part: MB10F; Contributor: LCSC; SMT Type: Extend; BOM_Supplier: LCSC; BOM_Supplier Part: C648913; BOM_JLCPCB SMD: Yes; spicePre: D; spiceSymbolName: MB10F_C648913
footprint MBF_L4.8-W3.9-P2.50-LS6.7-BL
pins: 1 AC, 2 AC, 3 +, 4 -

## MBR0540
designator D?
存货编码: 1110501001; 序号: 2480; 存货名称: 肖特基二极管; 规格型号: MBR0540,SOD123; 主计量单位名称: 只; 安全库存: 2262; 旧编码: 010601002; 旧规格型号: MBR0540 SOD123; Published: 8-Jun-2000; LatestRevisionDate: 17-Jul-2002; LatestRevisionNote: Re-released for DXP Platform.; PackageReference: SMB; Publisher: Altium Limited; PackageDescription: DO-214-AA/SMB; 2 C-Bend Leads; Body 5.3 x 3.6 mm, inc. leads (LxW); Code_JEDEC: DO-214-AA; Value: MBR0540
simulation model SKYDIODE (Diode)
signal-integrity model D Schottky
footprint SOD_123
pins: 1 A, 2 K

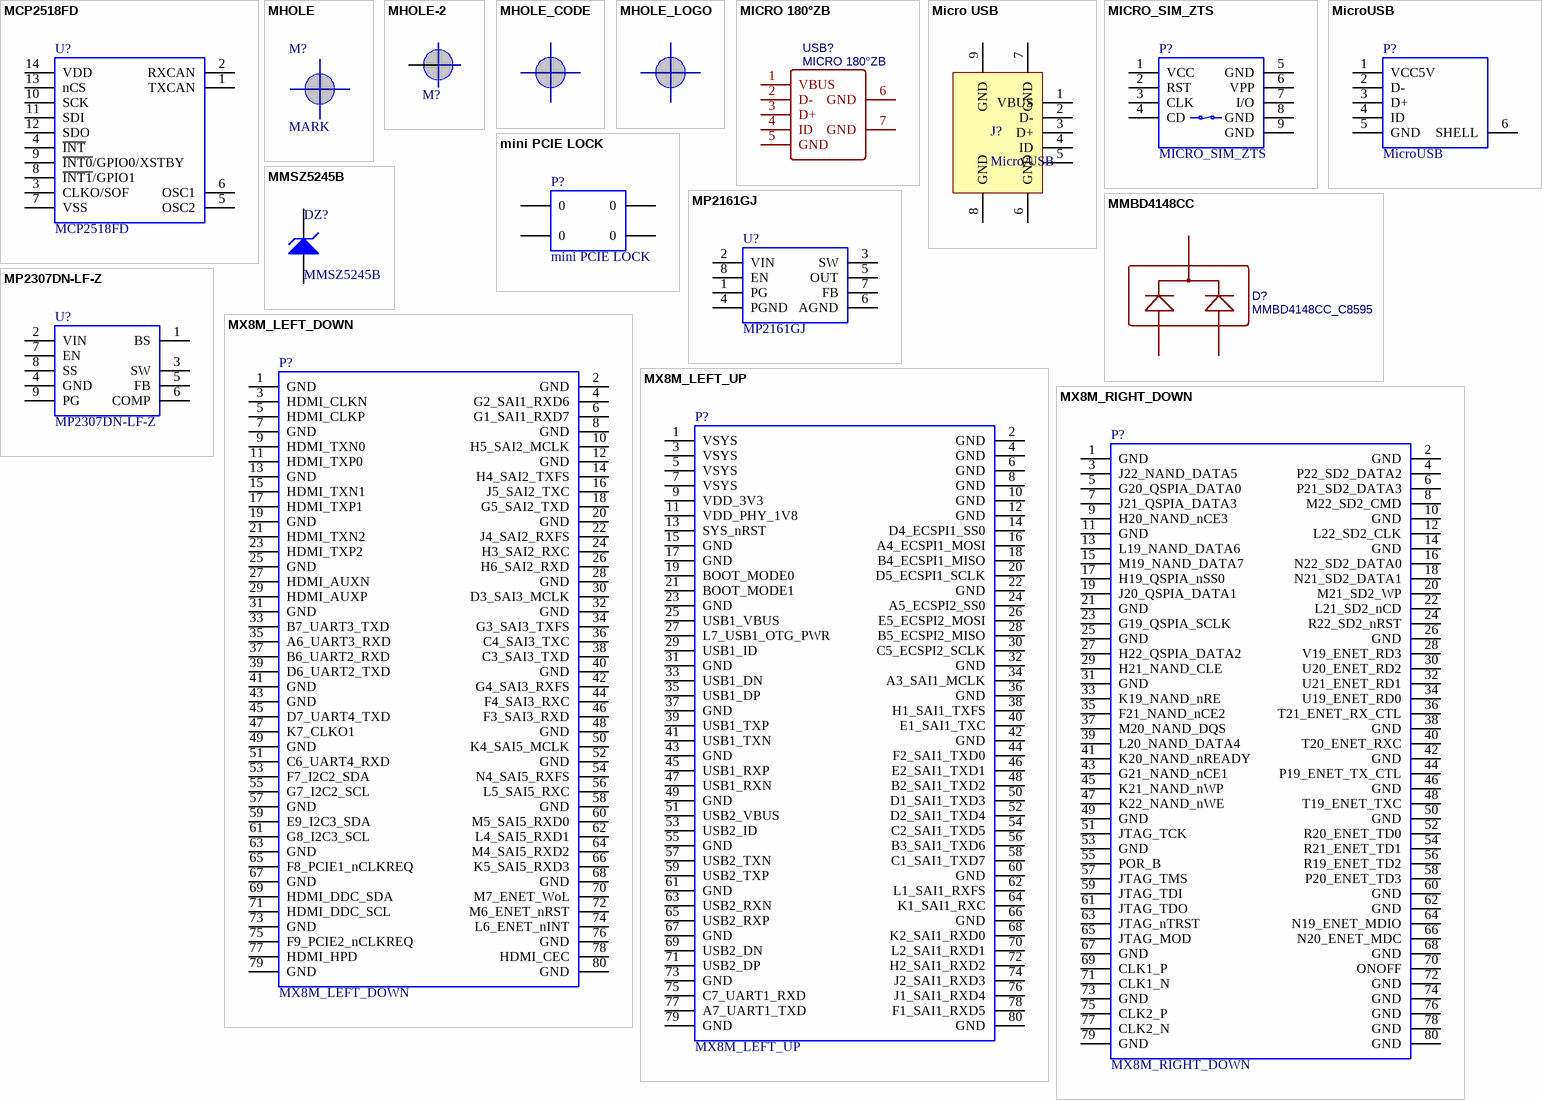
[diagram p3: symbols MCP2518FD to MX8M_RIGHT_DOWN]

## MCP2518FD
designator U?
存货编码: 234; 存货名称: 常规IC; 规格型号: MCP2518FDT-E/SL,SOIC-14; Value: MCP2518FD
footprint SOP14_1.27
pins: 1 TXCAN, 2 RXCAN, 3 CLKO/SOF, 4 ~{INT}, 5 OSC2, 6 OSC1, 7 VSS, 8 ~{INT1}/GPIO1, 9 ~{INT0}/GPIO0/XSTBY, 10 SCK, 11 SDI, 12 SDO, 13 nCS, 14 VDD

## MHOLE
designator M?, comment MARK
footprint Mark Point
footprint Mark Point_circle

## MHOLE-2
designator M?  (value not drawn)
footprint MHOLE_3.3
footprint 3.2mm_hole
footprint Model Name (Footprint not found)
footprint HOLE_3.2MM
pins: 0 EF

## MHOLE_CODE
designator M?
footprint CODE

## MHOLE_LOGO
designator M?
footprint LOGO

## MICRO 180°ZB
designator USB?
BOM_Manufacturer: SHOU HAN; Contributor: LCSC; BOM_Supplier: LCSC; BOM_Supplier Part: C668588; BOM_Manufacturer Part: MICRO 180°ZB; spicePre: U; spiceSymbolName: MICRO 180°ZB
footprint MICRO-USB-TH_MICRO-180°ZB
pins: 1 VBUS, 2 D-, 3 D+, 4 ID, 5 GND, 6 GND, 7 GND

## Micro USB
designator J?
Micro USB接口
pins: 1 VBUS, 2 D-, 3 D+, 4 ID, 5 V-, 6 GND, 7 GND, 8 GND, 9 GND

## MICRO_SIM_ZTS
designator P?
自弹式，带卡检测; 存货编码: 1120102027; 存货名称: 贴装MicroSIM卡座; 规格型号: 7PIN-17.37*15.7*1.35mm,自弹式,带卡检测; 安全库存: 13; Value: MICRO_SIM_ZTS
footprint MICRO_SIM_ZTS
pins: 1 VCC, 2 RST, 3 CLK, 4 CD, 5 GND, 6 VPP, 7 I/O, 8 GND, 9 GND

## MicroUSB
designator P?
存货编码: 1120102008; 序号: 1203; 存货名称: 贴片MicroUSB插座; 规格型号: MicroUSB-molex-material-No.47589-1001,AB型; 安全库存: 1660; 旧编码: 010401094; 旧规格型号: MicroUSB molex material No. 47589-1001 AB型; LatestRevisionDate: 17-Jul-2002; LatestRevisionNote: Re-released for DXP Platform.; Publisher: Altium Limited; VALUE: MicroUSB
signal-integrity model Connector
footprint MICROUSB_AB
pins: 1 VCC5V, 2 D-, 3 D+, 4 ID, 5 GND, 6 SHELL

## mini PCIE LOCK
designator P?
存货编码: 1120102023; 序号: 1150; 存货名称: 连接器; 规格型号: mini-PCIE,6.8mm; 安全库存: 899; 旧编码: 010401030; 旧规格型号: 闩锁，mini PCIE，品牌：molex; Value: mini PCIE LOCK
footprint MINI PCIE_LOCK
pins: 0, 0, 0, 0

## MMBD4148CC
designator D?, comment MMBD4148CC_C8595
BOM_Manufacturer: CJ; SMT Type: Extend; BOM_Supplier: LCSC; BOM_Manufacturer Part: MMBD4148CC; image: //image.lceda.cn/szlcsc/C8595.jpg; BOM_Supplier Part: C8595; BOM_LCSC Assembly: Yes; spicePre: D; spiceSymbolName: MMBD4148CC_C8595
footprint SOT-23-3_L2.9-W1.6-P1.90-LS2.8-BR
pins: 1, 2, 3

## MMSZ5245B
designator DZ?
存货编码: 1110501052; 序号: 2553; 存货名称: 稳压二极管; 规格型号: MMSZ5245B,15V,SOD-123; 安全库存: 3053; 旧编码: 010601078; 旧规格型号: MMSZ5245B 15V SOD-123; Published: 8-Jun-2000; LatestRevisionDate: 17-Jul-2002; LatestRevisionNote: Re-released for DXP Platform.; PackageReference: DIODE-0.7; Publisher: Altium Limited; PackageDescription: Diode, Thru-Hole; 2 Leads; 0.7 in Pin Spacing; Value: MMSZ5245B
simulation model ZENER (Diode)
signal-integrity model D Zener
footprint SOD_123
pins: 1 A, 2 K

## MP2161GJ
designator U?
存货编码: 1110404074; 序号: 2055; 存货名称: 集成电路; 规格型号: MP2161GJ,TSOT23-8; 安全库存: 10; 旧编码: 010504137; 旧规格型号: MP2161GJ TSOT23-8（电源芯片2.5-6VIN,2A）; Value: MP2161GJ
footprint TSOT23_8_0.65
pins: 1 PG, 2 VIN, 3 SW, 4 PGND, 5 OUT, 6 AGND, 7 FB, 8 EN

## MP2307DN-LF-Z
designator U?
存货编码: 1110404078; 序号: 2063; 存货名称: 集成电路; 规格型号: MP2307DN-LF-Z  SOIC-8(电源芯片4.75-23V,3A，); 主计量单位名称: 片; 安全库存: 4.00; 旧编码: 010504145; Value: MP2307DN-LF-Z; 启用日期: 2016/6/29
footprint SOP8_1.27_H
pins: 1 BS, 2 VIN, 3 SW, 4 GND, 5 FB, 6 COMP, 7 EN, 8 SS, 9 PG

## MX8M_LEFT_DOWN
designator P?
存货编码: 1120101018; 存货名称: 贴装连接器; 规格型号: AXK5F80537YG,公座,80p; 旧编码: 010401121; Value: MX8M_LEFT_DOWN
footprint SOCKET_80PIN_0.5MM
pins: 1 GND, 2 GND, 3 HDMI_CLKN, 4 G2_SAI1_RXD6, 5 HDMI_CLKP, 6 G1_SAI1_RXD7, 7 GND, 8 GND, 9 HDMI_TXN0, 10 H5_SAI2_MCLK, 11 HDMI_TXP0, 12 GND, 13 GND, 14 H4_SAI2_TXFS, 15 HDMI_TXN1, 16 J5_SAI2_TXC, 17 HDMI_TXP1, 18 G5_SAI2_TXD, 19 GND, 20 GND, 21 HDMI_TXN2, 22 J4_SAI2_RXFS, 23 HDMI_TXP2, 24 H3_SAI2_RXC, 25 GND, 26 H6_SAI2_RXD, 27 HDMI_AUXN, 28 GND, 29 HDMI_AUXP, 30 D3_SAI3_MCLK, 31 GND, 32 GND, 33 B7_UART3_TXD, 34 G3_SAI3_TXFS, 35 A6_UART3_RXD, 36 C4_SAI3_TXC, 37 B6_UART2_RXD, 38 C3_SAI3_TXD, 39 D6_UART2_TXD, 40 GND, 41 GND, 42 G4_SAI3_RXFS, 43 GND, 44 F4_SAI3_RXC, 45 D7_UART4_TXD, 46 F3_SAI3_RXD, 47 K7_CLKO1, 48 GND, 49 GND, 50 K4_SAI5_MCLK, 51 C6_UART4_RXD, 52 GND, 53 F7_I2C2_SDA, 54 N4_SAI5_RXFS, 55 G7_I2C2_SCL, 56 L5_SAI5_RXC, 57 GND, 58 GND, 59 E9_I2C3_SDA, 60 M5_SAI5_RXD0, 61 G8_I2C3_SCL, 62 L4_SAI5_RXD1, 63 GND, 64 M4_SAI5_RXD2, 65 F8_PCIE1_nCLKREQ, 66 K5_SAI5_RXD3, 67 GND, 68 GND, 69 HDMI_DDC_SDA, 70 M7_ENET_WoL, 71 HDMI_DDC_SCL, 72 M6_ENET_nRST, 73 GND, 74 L6_ENET_nINT, 75 F9_PCIE2_nCLKREQ, 76 GND, 77 HDMI_HPD, 78 HDMI_CEC, 79 GND, 80 GND

## MX8M_LEFT_UP
designator P?
存货编码: 1120101018; 存货名称: 贴装连接器; 规格型号: AXK5F80537YG,公座,80p; 旧编码: 010401121; Value: MX8M_LEFT_UP
footprint SOCKET_80PIN_0.5MM
pins: 1 VSYS, 2 GND, 3 VSYS, 4 GND, 5 VSYS, 6 GND, 7 VSYS, 8 GND, 9 VDD_3V3, 10 GND, 11 VDD_PHY_1V8, 12 GND, 13 SYS_nRST, 14 D4_ECSPI1_SS0, 15 GND, 16 A4_ECSPI1_MOSI, 17 GND, 18 B4_ECSPI1_MISO, 19 BOOT_MODE0, 20 D5_ECSPI1_SCLK, 21 BOOT_MODE1, 22 GND, 23 GND, 24 A5_ECSPI2_SS0, 25 USB1_VBUS, 26 E5_ECSPI2_MOSI, 27 L7_USB1_OTG_PWR, 28 B5_ECSPI2_MISO, 29 USB1_ID, 30 C5_ECSPI2_SCLK, 31 GND, 32 GND, 33 USB1_DN, 34 A3_SAI1_MCLK, 35 USB1_DP, 36 GND, 37 GND, 38 H1_SAI1_TXFS, 39 USB1_TXP, 40 E1_SAI1_TXC, 41 USB1_TXN, 42 GND, 43 GND, 44 F2_SAI1_TXD0, 45 USB1_RXP, 46 E2_SAI1_TXD1, 47 USB1_RXN, 48 B2_SAI1_TXD2, 49 GND, 50 D1_SAI1_TXD3, 51 USB2_VBUS, 52 D2_SAI1_TXD4, 53 USB2_ID, 54 C2_SAI1_TXD5, 55 GND, 56 B3_SAI1_TXD6, 57 USB2_TXN, 58 C1_SAI1_TXD7, 59 USB2_TXP, 60 GND, 61 GND, 62 L1_SAI1_RXFS, 63 USB2_RXN, 64 K1_SAI1_RXC, 65 USB2_RXP, 66 GND, 67 GND, 68 K2_SAI1_RXD0, 69 USB2_DN, 70 L2_SAI1_RXD1, 71 USB2_DP, 72 H2_SAI1_RXD2, 73 GND, 74 J2_SAI1_RXD3, 75 C7_UART1_RXD, 76 J1_SAI1_RXD4, 77 A7_UART1_TXD, 78 F1_SAI1_RXD5, 79 GND, 80 GND

## MX8M_RIGHT_DOWN
designator P?
存货编码: 1120101018; 存货名称: 贴装连接器; 规格型号: AXK5F80537YG,公座,80p; 旧编码: 010401121; Value: MX8M_RIGHT_DOWN
footprint SOCKET_80PIN_0.5MM
pins: 1 GND, 2 GND, 3 J22_NAND_DATA5, 4 P22_SD2_DATA2, 5 G20_QSPIA_DATA0, 6 P21_SD2_DATA3, 7 J21_QSPIA_DATA3, 8 M22_SD2_CMD, 9 H20_NAND_nCE3, 10 GND, 11 GND, 12 L22_SD2_CLK, 13 L19_NAND_DATA6, 14 GND, 15 M19_NAND_DATA7, 16 N22_SD2_DATA0, 17 H19_QSPIA_nSS0, 18 N21_SD2_DATA1, 19 J20_QSPIA_DATA1, 20 M21_SD2_WP, 21 GND, 22 L21_SD2_nCD, 23 G19_QSPIA_SCLK, 24 R22_SD2_nRST, 25 GND, 26 GND, 27 H22_QSPIA_DATA2, 28 V19_ENET_RD3, 29 H21_NAND_CLE, 30 U20_ENET_RD2, 31 GND, 32 U21_ENET_RD1, 33 K19_NAND_nRE, 34 U19_ENET_RD0, 35 F21_NAND_nCE2, 36 T21_ENET_RX_CTL, 37 M20_NAND_DQS, 38 GND, 39 L20_NAND_DATA4, 40 T20_ENET_RXC, 41 K20_NAND_nREADY, 42 GND, 43 G21_NAND_nCE1, 44 P19_ENET_TX_CTL, 45 K21_NAND_nWP, 46 GND, 47 K22_NAND_nWE, 48 T19_ENET_TXC, 49 GND, 50 GND, 51 JTAG_TCK, 52 R20_ENET_TD0, 53 GND, 54 R21_ENET_TD1, 55 POR_B, 56 R19_ENET_TD2, 57 JTAG_TMS, 58 P20_ENET_TD3, 59 JTAG_TDI, 60 GND, 61 JTAG_TDO, 62 GND, 63 JTAG_nTRST, 64 N19_ENET_MDIO, 65 JTAG_MOD, 66 N20_ENET_MDC, 67 GND, 68 GND, 69 CLK1_P, 70 ONOFF, 71 CLK1_N, 72 GND, 73 GND, 74 GND, 75 CLK2_P, 76 GND, 77 CLK2_N, 78 GND, 79 GND, 80 GND

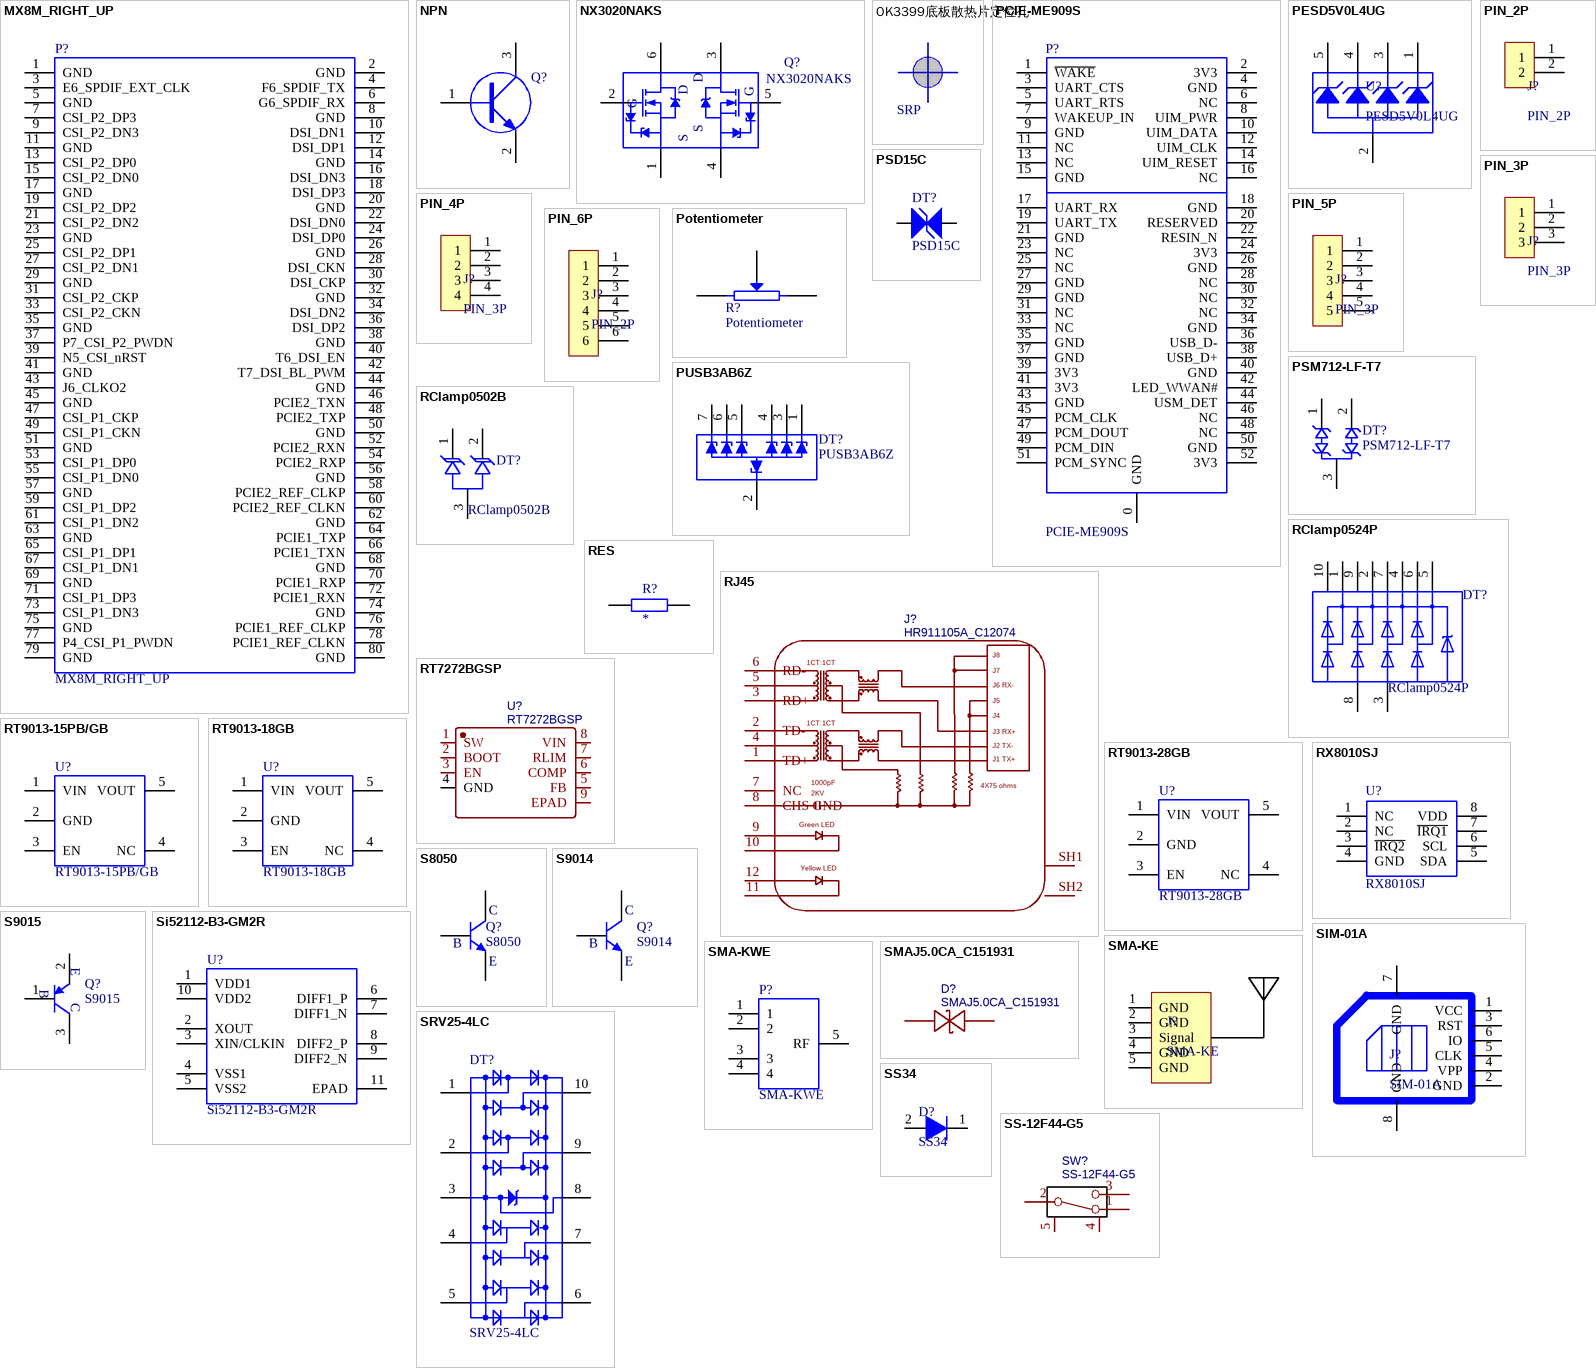
[diagram p4: symbols MX8M_RIGHT_UP to SS-12F44-G5]

## MX8M_RIGHT_UP
designator P?
存货编码: 1120101018; 存货名称: 贴装连接器; 规格型号: AXK5F80537YG,公座,80p; 旧编码: 010401121; Value: MX8M_RIGHT_UP
footprint SOCKET_80PIN_0.5MM
pins: 1 GND, 2 GND, 3 E6_SPDIF_EXT_CLK, 4 F6_SPDIF_TX, 5 GND, 6 G6_SPDIF_RX, 7 CSI_P2_DP3, 8 GND, 9 CSI_P2_DN3, 10 DSI_DN1, 11 GND, 12 DSI_DP1, 13 CSI_P2_DP0, 14 GND, 15 CSI_P2_DN0, 16 DSI_DN3, 17 GND, 18 DSI_DP3, 19 CSI_P2_DP2, 20 GND, 21 CSI_P2_DN2, 22 DSI_DN0, 23 GND, 24 DSI_DP0, 25 CSI_P2_DP1, 26 GND, 27 CSI_P2_DN1, 28 DSI_CKN, 29 GND, 30 DSI_CKP, 31 CSI_P2_CKP, 32 GND, 33 CSI_P2_CKN, 34 DSI_DN2, 35 GND, 36 DSI_DP2, 37 P7_CSI_P2_PWDN, 38 GND, 39 N5_CSI_nRST, 40 T6_DSI_EN, 41 GND, 42 T7_DSI_BL_PWM, 43 J6_CLKO2, 44 GND, 45 GND, 46 PCIE2_TXN, 47 CSI_P1_CKP, 48 PCIE2_TXP, 49 CSI_P1_CKN, 50 GND, 51 GND, 52 PCIE2_RXN, 53 CSI_P1_DP0, 54 PCIE2_RXP, 55 CSI_P1_DN0, 56 GND, 57 GND, 58 PCIE2_REF_CLKP, 59 CSI_P1_DP2, 60 PCIE2_REF_CLKN, 61 CSI_P1_DN2, 62 GND, 63 GND, 64 PCIE1_TXP, 65 CSI_P1_DP1, 66 PCIE1_TXN, 67 CSI_P1_DN1, 68 GND, 69 GND, 70 PCIE1_RXP, 71 CSI_P1_DP3, 72 PCIE1_RXN, 73 CSI_P1_DN3, 74 GND, 75 GND, 76 PCIE1_REF_CLKP, 77 P4_CSI_P1_PWDN, 78 PCIE1_REF_CLKN, 79 GND, 80 GND

## NPN
designator Q?
NPN三极管
footprint SOT-23
pins: 1 B, 2 E, 3 C

## NX3020NAKS
designator Q?
Note: Pin 2 is electrically connected to pin 4.; 存货编码: 123; 存货名称: 场效应管; 规格型号: NX3020NAKS,SOT363; Published: 8-Jun-2000; LatestRevisionDate: 17-Jul-2002; LatestRevisionNote: Re-released for DXP Platform.; DatasheetVersion: PD-9.814; PackageVersion: Feb-1997; PackageReference: TO-220AB; Publisher: Altium Limited; PackageDescription: TO, Thru-Hole, Vertical, Heatsink Mounted; 3 In-Line Leads; Pitch 2.54 mm; VALUE: NX3020NAKS
simulation model IRF1010 (Spice Subcircuit)
footprint SOT363
pins: 1 S1, 2 G1, 3 D2, 4 S2, 5 G2, 6 D1
text: D; G; S

## OK3399底板散热片定位孔
designator M?, comment SRP
存货编码: 1150302014; 存货名称: 散热片; 规格型号: 38*38mm,带固定螺丝,螺丝长度17.6mm,OK3399底板使用; 安全库存: 23; Value: SRP
footprint SRP_38*38mm

## PCIE-ME909S
designator P?
序号: 63; 存货编码: 1120102022; 存货名称: 连接器; 规格型号: 插座，mini PCIE ，5.75mm，品牌：molex; 安全库存: 633.00; 旧编码: 010401029; Value: PCIE-ME909S
footprint MINI PCIE
pins: 0 GND, 1 ~{WAKE}, 2 3V3, 3 UART_CTS, 4 GND, 5 UART_RTS, 6 NC, 7 WAKEUP_IN, 8 UIM_PWR, 9 GND, 10 UIM_DATA, 11 NC, 12 UIM_CLK, 13 NC, 14 UIM_RESET, 15 GND, 16 NC, 17 UART_RX, 18 GND, 19 UART_TX, 20 RESERVED, 21 GND, 22 RESIN_N, 23 NC, 24 3V3, 25 NC, 26 GND, 27 GND, 28 NC, 29 GND, 30 NC, 31 NC, 32 NC, 33 NC, 34 GND, 35 GND, 36 USB_D-, 37 GND, 38 USB_D+, 39 3V3, 40 GND, 41 3V3, 42 LED_WWAN#, 43 GND, 44 USM_DET, 45 PCM_CLK, 46 NC, 47 PCM_DOUT, 48 NC, 49 PCM_DIN, 50 GND, 51 PCM_SYNC, 52 3V3

## PESD5V0L4UG
designator U?
pins: 1, 2, 3, 4, 5

## PIN_2P
designator J?
pins: 1, 2

## PIN_3P
designator J?
pins: 1, 2, 3

## PIN_4P
designator J?, comment PIN_3P
pins: 1, 2, 3, 4

## PIN_5P
designator J?, comment PIN_3P
pins: 1, 2, 3, 4, 5

## PIN_6P
designator J?, comment PIN_2P
pins: 1, 2, 3, 4, 5, 6

## Potentiometer
designator R?
电位器
footprint VR
pins: 1, 2, 3 W

## PSD15C
designator DT?
存货编码: 1110503028; 序号: 2617; 存货名称: TVS管; 规格型号: PSD15C,SOD-323; 主计量单位名称: 只; 安全库存: 1427; 旧编码: 010603029; 旧规格型号: PSD15C SOD-323; Value: PSD15C
footprint SOD_323_D
pins: 1, 2

## PSM712-LF-T7
designator DT?
存货编码: 1110503019; 序号: 2606; 存货名称: TVS管; 规格型号: PSM712-LF-T7,SOT-23-3; 主计量单位名称: 只; 安全库存: 4273; 旧编码: 010603018; 旧规格型号: PSM712-LF-T7 SOT-23-3(CAN,485); Value: PSM712-LF-T7
footprint SOT_233_N
pins: 1, 2, 3

## PUSB3AB6Z
designator DT?
存货编码: 1110503004; 序号: 2555; 存货名称: TVS管; 规格型号: PUSB3AB6Z,xson7; 安全库存: 28; 旧编码: 010601080; 旧规格型号: PUSB3AB6Z xson7; Value: PUSB3AB6Z
footprint DFN2111-7
pins: 1, 2, 3, 4, 5, 6, 7

## RClamp0502B
designator DT?
存货编码: 1110503016; 序号: 2598; 存货名称: TVS管; 规格型号: RC1amp0502B,SOT-523; 安全库存: 479; 旧编码: 010603010; 旧规格型号: RC1amp0502B SOT-523; Value: RClamp0502B
footprint SOT_523
pins: 1, 2, 3

## RClamp0524P
designator DT?
存货编码: 1110405144; 序号: 2318; 存货名称: 常规IC; 主计量单位名称: 片; 安全库存: 1499; 旧编码: 010508004; 旧规格型号: RClamp0524P(SATA保护TVS); 规格型号: RClamp0524P; Value: RClamp0524P
footprint DFN_10L
pins: 1, 2, 3, 4, 5, 6, 7, 8, 9, 10

## RES
designator R?
电阻; ComponentLink1Description: New link; ComponentLink1URL: *; ComponentLink2Description: New link; ComponentLink2URL: *
pins: 1, 2

## RJ45
designator J?, comment HR911105A_C12074
BOM_Manufacturer: HANRUN; BOM_Supplier: LCSC; BOM_Manufacturer Part: HR911105A; image: //image.lceda.cn/szlcsc/C12074.jpg; BOM_Supplier Part: C12074; spicePre: J; spiceSymbolName: HR911105A_C12074
footprint RJ45-TH_HR911105A
pins: 1 TD+, 2 TD-, 3 RD+, 4, 5, 6 RD-, 7 NC, 8 CHS GND, 9, 10, 11, 12, SH1, SH2
text: J8; 1CT:1CT; J7; J6 RX-; J5; J4; J3 RX+; J2 TX-; J1 TX+; 1000pF; 4X75 ohms; 2KV; Green LED; Yellow LED

## RT7272BGSP
designator U?
BOM_Manufacturer: Richtek Tech; Contributor: LCSC; SMT Type: Extend; BOM_Supplier: LCSC; BOM_Supplier Part: C127866; BOM_Manufacturer Part: RT7272BGSP; BOM_LCSC Assembly: Yes; spicePre: U; spiceSymbolName: RT7272BGSP
footprint SOIC-8_L5.0-W4.0-P1.27-LS6.0-BL-EP
pins: 1 SW, 2 BOOT, 3 EN, 4 GND, 5 FB, 6 COMP, 7 RLIM, 8 VIN, 9 EPAD

## RT9013-15PB/GB
designator U?
存货编码: 1110404081; 序号: 2066; 存货名称: 电源; 主计量单位名称: 片; 安全库存: 2252; 旧编码: 010504148; 旧规格型号: RT9013-15PB/GB(LDO); Value: RT9013-15PB/GB; 规格型号: RT9013-15PB/GB
footprint SOT_235
pins: 1 VIN, 2 GND, 3 EN, 4 NC, 5 VOUT

## RT9013-18GB
designator U?
存货编码: 1110404097; 序号: 2093; 存货名称: 电源; 规格型号: RT9013-18GB,SOT-23-5; 主计量单位名称: 片; 安全库存: 1393; 旧编码: 010504175; Value: RT9013-18GB; 旧规格型号: RT9013-18GB
footprint SOT_235
pins: 1 VIN, 2 GND, 3 EN, 4 NC, 5 VOUT

## RT9013-28GB
designator U?
存货编码: 1110404096; 序号: 2092; 存货名称: 电源; 主计量单位名称: 片; 安全库存: 1554; 旧编码: 010504174; Value: RT9013-28GB; 规格型号: RT9013-28GB; 旧规格型号: RT9013-28GB
footprint SOT_235
pins: 1 VIN, 2 GND, 3 EN, 4 NC, 5 VOUT

## RX8010SJ
designator U?
存货编码: 1110405188; 序号: 2405; 存货名称: 常规IC; 规格型号: RX8010SJ,SO-8; 安全库存: 2460; 旧编码: 010510074; 旧规格型号: RX8010SJ SO-8 爱普生; Value: RX8010SJ
footprint RX8010SJ
pins: 1 NC, 2 NC, 3 ~{IRQ2}, 4 GND, 5 SDA, 6 SCL, 7 ~{IRQ1}, 8 VDD

## S8050
designator Q?
存货编码: 1110502003; 序号: 2564; 存货名称: 三极管; 规格型号: S8050,SOT23-3,NPN; 主计量单位名称: 只; 安全库存: 4597; 旧编码: 010602004; 旧规格型号: NPN S8050 SOT23-3; Published: 8-Jun-2000; LatestRevisionDate: 17-Jul-2002; LatestRevisionNote: Re-released for DXP Platform.; PackageReference: TO-226-AA; Publisher: Altium Limited; PackageDescription: TO, Flat Index; 3 In-Line, Axial Leads; Body Dia. 4.8mm; Leads 0.55 x 0.51 mm (max); Code_JEDEC: TO-226-AA; VALUE: S8050
simulation model NPN
signal-integrity model NPN
footprint SOT_233_N
pins: 1 B, 2 E, 3 C

## S9014
designator Q?
存货编码: 1110502005; 序号: 2567; 存货名称: 三极管; 规格型号: S9014,SOT-23-3,NPN; 主计量单位名称: 只; 安全库存: 1624; 旧编码: 010602007; 旧规格型号: NPN，S9014，SOT-23-3; Published: 8-Jun-2000; LatestRevisionDate: 17-Jul-2002; LatestRevisionNote: Re-released for DXP Platform.; PackageReference: TO-226-AA; Publisher: Altium Limited; PackageDescription: TO, Flat Index; 3 In-Line, Axial Leads; Body Dia. 4.8mm; Leads 0.55 x 0.51 mm (max); Code_JEDEC: TO-226-AA; VALUE: S9014
simulation model NPN
signal-integrity model NPN
footprint SOT_233_N
pins: 1 B, 2 E, 3 C

## S9015
designator Q?
存货编码: 1110502006; 序号: 2568; 存货名称: 三极管; 规格型号: S9015,SOT-23-3,PNP; 主计量单位名称: 只; 安全库存: 1416; 旧编码: 010602008; 旧规格型号: PNP，S9015，SOT-23-3; Published: 8-Jun-2000; LatestRevisionDate: 17-Jul-2002; LatestRevisionNote: Re-released for DXP Platform.; PackageReference: TO-226-AA; Publisher: Altium Limited; PackageDescription: TO, Flat Index; 3 In-Line, Axial Leads; Body Dia. 4.8mm; Leads 0.55 x 0.51 mm (max); Code_JEDEC: TO-226-AA; VALUE: S9015
simulation model NPN
signal-integrity model NPN
footprint SOT_233_N
pins: 1 B, 2 E, 3 C

## Si52112-B3-GM2R
designator U?
存货编码: 1110405123; 序号: 2232; 存货名称: 常规IC; 规格型号: Si52112-B3-GM2R,TDFN-10P; 主计量单位名称: 片; 安全库存: 185; 旧编码: 010505120; 旧规格型号: Si52112-B3-GM2R TDFN-10P; Value: Si52112-B3-GM2R
footprint TDFN10
pins: 1 VDD1, 2 XOUT, 3 XIN/CLKIN, 4 VSS1, 5 VSS2, 6 DIFF1_P, 7 DIFF1_N, 8 DIFF2_P, 9 DIFF2_N, 10 VDD2, 11 EPAD

## SIM-01A
designator J?
SIM卡座
pins: 1 VCC, 2 GND, 3 RST, 4 VPP, 5 CLK, 6 IO, 7 GND, 8 GND

## SMA-KE
designator J?
天线 90°折角
pins: 1 GND, 2 GND, 3 Signal, 4 GND, 5 GND

## SMA-KWE
designator P?
存货编码: 1120201171; 序号: 3719; 存货名称: 插装连接器; 规格型号: SMA-KWE板端座,弯头,外螺内孔,总长14.5mm,牙长8.5mm; 主计量单位名称: 个; 安全库存: 3434; 旧编码: 01100013; 旧规格型号: SMA-KWE板端座子 弯头 内孔; Value: SMA-KWE
footprint RF
pins: 1, 2, 3, 4, 5 RF

## SMAJ5.0CA_C151931
designator D?
BOM_Manufacturer: BORN; Contributor: LCSC; SMT Type: Extend; BOM_Supplier: LCSC; BOM_Manufacturer Part: SMAJ5.0CA; BOM_Supplier Part: C151931; BOM_LCSC Assembly: Yes; spicePre: D; spiceSymbolName: SMAJ5.0CA_C151931
footprint SMA_L4.4-W2.6-LS5.0-BI
pins: 1, 2

## SRV25-4LC
designator DT?
Index: 25; CompmentName: ESD防护芯片; 厂商: SEMTECH; 存货编码: 1110503038; 存货名称: TVS管; 规格型号: SRV25-4LC-T7,DFN-10; Marker: SRV25-4LC; Value: SRV25-4LC
footprint DFN_10_PAD
pins: 1 IO1, 2 IO2, 3 GND, 4, 5, 6, 7, 8 VCC, 9 IO3, 10 IO4

## SS34
designator D?
二极管
pins: 1, 2

## SS-12F44-G5
designator SW?
BOM_Manufacturer: Rectangular Connectors - Contacts; Contributor: LCSC; BOM_Supplier: LCSC; BOM_Supplier Part: C136718; BOM_Manufacturer Part: SS-12F44-G5; spicePre: S; spiceSymbolName: SS-12F44-G5
footprint SW-TH_SS-12F44-G5
pins: 1, 2, 3, 4, 5

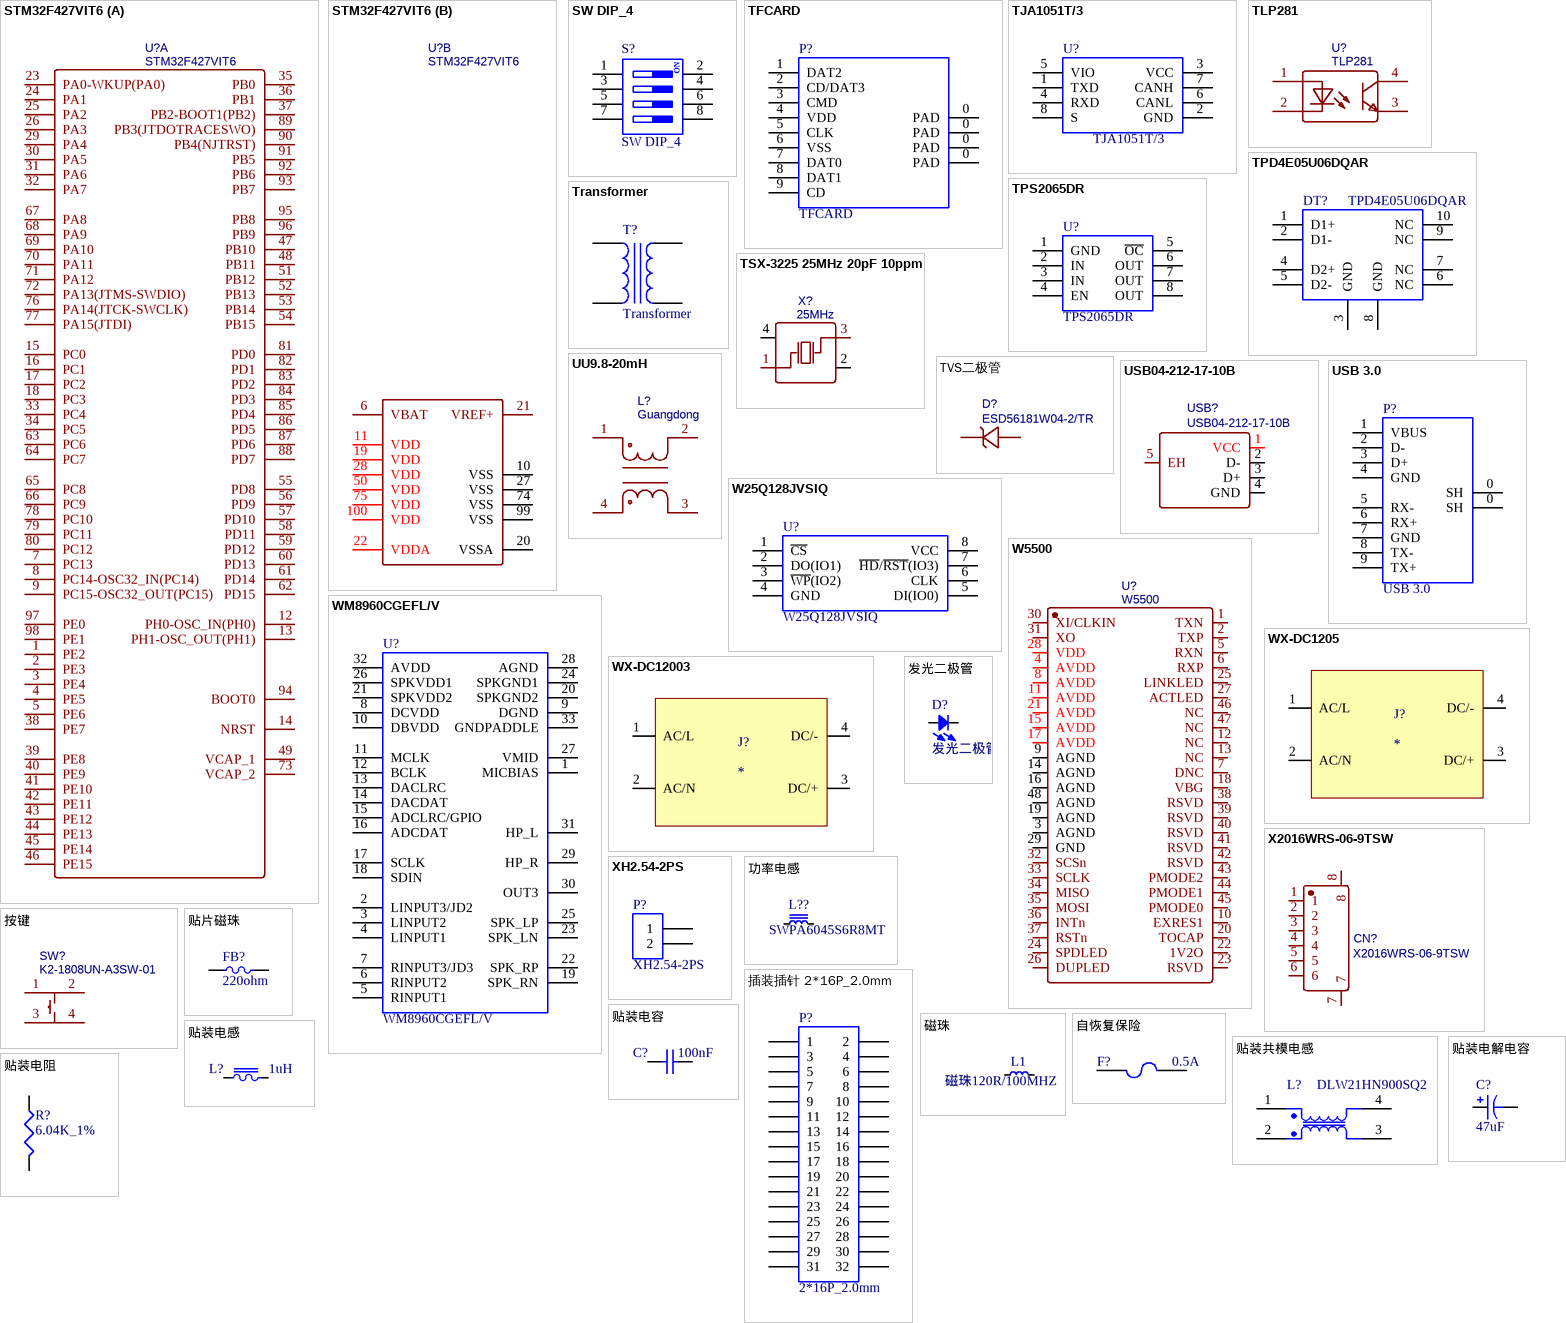
[diagram p5: symbols STM32F427VIT6 to 贴装电阻]

## STM32F427VIT6
designator U?
BOM_Manufacturer: STMicroelectronics; subpart_no: 2; BOM_Supplier Part: C57097; BOM_Supplier: LCSC; BOM_Manufacturer Part: STM32F427VIT6; spicePre: U; spiceSymbolName: STM32F427VIT6
footprint LQFP-100_L14.0-W14.0-P0.50-LS16.0-BL
part A pins: 1 PE2, 2 PE3, 3 PE4, 4 PE5, 5 PE6, 7 PC13, 8 PC14-OSC32_IN(PC14), 9 PC15-OSC32_OUT(PC15), 12 PH0-OSC_IN(PH0), 13 PH1-OSC_OUT(PH1), 14 NRST, 15 PC0, 16 PC1, 17 PC2, 18 PC3, 23 PA0-WKUP(PA0), 24 PA1, 25 PA2, 26 PA3, 29 PA4, 30 PA5, 31 PA6, 32 PA7, 33 PC4, 34 PC5, 35 PB0, 36 PB1, 37 PB2-BOOT1(PB2), 38 PE7, 39 PE8, 40 PE9, 41 PE10, 42 PE11, 43 PE12, 44 PE13, 45 PE14, 46 PE15, 47 PB10, 48 PB11, 49 VCAP_1, 51 PB12, 52 PB13, 53 PB14, 54 PB15, 55 PD8, 56 PD9, 57 PD10, 58 PD11, 59 PD12, 60 PD13, 61 PD14, 62 PD15, 63 PC6, 64 PC7, 65 PC8, 66 PC9, 67 PA8, 68 PA9, 69 PA10, 70 PA11, 71 PA12, 72 PA13(JTMS-SWDIO), 73 VCAP_2, 76 PA14(JTCK-SWCLK), 77 PA15(JTDI), 78 PC10, 79 PC11, 80 PC12, 81 PD0, 82 PD1, 83 PD2, 84 PD3, 85 PD4, 86 PD5, 87 PD6, 88 PD7, 89 PB3(JTDOTRACESWO), 90 PB4(NJTRST), 91 PB5, 92 PB6, 93 PB7, 94 BOOT0, 95 PB8, 96 PB9, 97 PE0, 98 PE1
part B pins: 6 VBAT, 10 VSS, 11 VDD, 19 VDD, 20 VSSA, 21 VREF+, 22 VDDA, 27 VSS, 28 VDD, 50 VDD, 74 VSS, 75 VDD, 99 VSS, 100 VDD

## SW DIP_4
designator S?
存货编码: 1120204003; 序号: 3466; 存货名称: 插装拨码开关; 规格型号: 4位,8P,2.54mm,红色; 主计量单位名称: 个; 安全库存: 143; 旧编码: 010901006; 旧规格型号: 插装 4位 8P 2.54mm 红色; Value: SW DIP_4
footprint SWITCH_4P_DIP
pins: 1 A1, 2 B1, 3 A2, 4 B2, 5 A3, 6 B3, 7 A4, 8 B4
text: ON

## TFCARD
designator P?
存货编码: 1120104005; 序号: 1164; 存货名称: 贴装TF卡座; 规格型号: TFP09-2-12B,自弹式单弹,外焊; 安全库存: 803; 旧编码: 010401044; 旧规格型号: TF卡外焊自弹单弹 TFP09-2-12B; Value: TFCARD
footprint TF_CARD_SELF
pins: 0 PAD, 0 PAD, 0 PAD, 0 PAD, 1 DAT2, 2 CD/DAT3, 3 CMD, 4 VDD, 5 CLK, 6 VSS, 7 DAT0, 8 DAT1, 9 CD

## TJA1051T/3
designator U?
存货编码: 1110405297; 存货名称: 常规IC; 规格型号: TJA1051T/3,SO8; Value: TJA1051T/3
footprint SOP8_1.27
pins: 1 TXD, 2 GND, 3 VCC, 4 RXD, 5 VIO, 6 CANL, 7 CANH, 8 S

## TLP281
designator U?
BOM_Manufacturer: Isocom Components; Contributor: LCSC; BOM_Supplier: LCSC; BOM_Supplier Part: C433437; BOM_Manufacturer Part: TLP281; spicePre: U; spiceSymbolName: TLP281
footprint SMD-4_L2.7-W4.4-P1.27-LS7.0-BL
pins: 1, 2, 3, 4

## TPD4E05U06DQAR
designator DT?
存货编码: 1110503037; 存货名称: TVS管; 规格型号: TPD4E05U06DQAR,USON; 安全库存: 95; Value: TPD4E05U06DQAR
footprint USON-10
pins: 1 D1+, 2 D1-, 3 GND, 4 D2+, 5 D2-, 6 NC, 7 NC, 8 GND, 9 NC, 10 NC

## TPS2065DR
designator U?
存货编码: 1110405234; 序号: 2460; 存货名称: 常规IC; 规格型号: TPS2065DR,SOIC-8; 安全库存: 215; 旧编码: 010510131; 旧规格型号: TPS2065DR SOIC-8(功率开关); LatestRevisionDate: 17-Jul-2002; LatestRevisionNote: Re-released for DXP Platform.; Publisher: Altium Limited; Value: TPS2065DR
signal-integrity model Connector
footprint SOP8_1.27
pins: 1 GND, 2 IN, 3 IN, 4 EN, 5 ~{OC}, 6 OUT, 7 OUT, 8 OUT

## Transformer
designator T?
变压器
pins: 1, 2, 3, 4

## TSX-3225 25MHz 20pF 10ppm
designator X?, comment 25MHz
BOM_Manufacturer: EPSON; BOM_Manufacturer Part: X1E0000210352000G; nameAlias: Frequency; SMT Type: Extend; BOM_Supplier: LCSC; BOM_Supplier Part: C91738; BOM_LCSC Assembly: Yes; spicePre: X; spiceSymbolName: X1E0000210352000G
footprint OSC-SMD_4P-L3.2-W2.5-BL
pins: 1 OSC1, 2 GND, 3 OSC2, 4 GND

## TVS二极管
designator D?, comment ESD56181W04-2/TR
BOM_Manufacturer: WILLSEMI(Will Semicon); Contributor: LCSC; BOM_Supplier: LCSC; BOM_Supplier Part: C910982; BOM_Manufacturer Part: ESD56181W04-2/TR; spicePre: D; spiceSymbolName: ESD56181W04-2/TR
footprint SOD-323_L1.8-W1.3-LS2.5-RD
pins: 1 K, 2 A

## USB04-212-17-10B
designator USB?
BOM_Manufacturer: JINJIA; Contributor: LCSC; BOM_Paste Type: expand; BOM_Supplier: LCSC; BOM_Supplier Part: C718029; BOM_Manufacturer Part: USB04-212-17-10B; spicePre: U; spiceSymbolName: USB04-212-17-10B
footprint USB-A-TH_USB04-212-17-10B
pins: 1 VCC, 2 D-, 3 D+, 4 GND, 5 EH

## USB 3.0
designator P?
存货编码: 1120202108; 存货名称: 插装USB座; 规格型号: USB3.0,竖卧,直插,蓝色胶芯,无卷边; Value: USB 3.0
footprint USB3.0_A_V
pins: 0 SH, 0 SH, 1 VBUS, 2 D-, 3 D+, 4 GND, 5 RX-, 6 RX+, 7 GND, 8 TX-, 9 TX+

## UU9.8-20mH
designator L?, comment Guangdong
BOM_Manufacturer: Guangdong Fenghua Advanced Tech; BOM_Manufacturer Part: UU9.8-20mH; nameAlias: Value; Contributor: LCSC; BOM_Supplier: LCSC; BOM_Supplier Part: C164623; spicePre: L; spiceSymbolName: UU9.8-20MH
footprint FILTER-TH_4P-L17.0-W12.0-P7.00-D0.6-S8.00
pins: 1, 2, 3, 4

## W25Q128JVSIQ
designator U?
存货编码: 1110403033; 序号: 1849; 存货名称: flash; 规格型号: W25Q128JVSIQ,SOIC-8; 描述栏信息: QSPI,NOR; 主计量单位名称: 增加原理图库和封装库; Value: W25Q128JVSIQ
footprint SOP8_1.27_W5.28
pins: 1 ~{CS}, 2 DO(IO1), 3 ~{WP}(IO2), 4 GND, 5 DI(IO0), 6 CLK, 7 ~{HD}/~{RST}(IO3), 8 VCC

## W5500
designator U?
BOM_Manufacturer: WIZNET; SMT Type: Basic; BOM_Supplier: LCSC; BOM_Manufacturer Part: W5500; image: //image.lceda.cn/szlcsc/C32843.jpg; BOM_Supplier Part: C32843; BOM_JLCPCB SMD: Yes; spicePre: U; spiceSymbolName: W5500
footprint LQFP-48_L7.0-W7.0-P0.50-LS9.0-BL
pins: 1 TXN, 2 TXP, 3 AGND, 4 AVDD, 5 RXN, 6 RXP, 7 DNC, 8 AVDD, 9 AGND, 10 EXRES1, 11 AVDD, 12 NC, 13 NC, 14 AGND, 15 AVDD, 16 AGND, 17 AVDD, 18 VBG, 19 AGND, 20 TOCAP, 21 AVDD, 22 1V2O, 23 RSVD, 24 SPDLED, 25 LINKLED, 26 DUPLED, 27 ACTLED, 28 VDD, 29 GND, 30 XI/CLKIN, 31 XO, 32 SCSn, 33 SCLK, 34 MISO, 35 MOSI, 36 INTn, 37 RSTn, 38 RSVD, 39 RSVD, 40 RSVD, 41 RSVD, 42 RSVD, 43 PMODE2, 44 PMODE1, 45 PMODE0, 46 NC, 47 NC, 48 AGND

## WM8960CGEFL/V
designator U?
存货编码: 1110405213; 序号: 2435; 存货名称: 常规IC; 主计量单位名称: 片; 安全库存: 383; 旧编码: 010510104; 规格型号: WM8960CGEFL/V; Value: WM8960CGEFL/V; 旧规格型号: WM8960CGEFL/V
footprint QFN32P_0.5BSC_5*5_H
pins: 1 MICBIAS, 2 LINPUT3/JD2, 3 LINPUT2, 4 LINPUT1, 5 RINPUT1, 6 RINPUT2, 7 RINPUT3/JD3, 8 DCVDD, 9 DGND, 10 DBVDD, 11 MCLK, 12 BCLK, 13 DACLRC, 14 DACDAT, 15 ADCLRC/GPIO, 16 ADCDAT, 17 SCLK, 18 SDIN, 19 SPK_RN, 20 SPKGND2, 21 SPKVDD2, 22 SPK_RP, 23 SPK_LN, 24 SPKGND1, 25 SPK_LP, 26 SPKVDD1, 27 VMID, 28 AGND, 29 HP_R, 30 OUT3, 31 HP_L, 32 AVDD, 33 GNDPADDLE

## WX-DC1205
designator J?
pins: 1 AC/L, 2 AC/N, 3 DC/+, 4 DC/-

## WX-DC12003
designator J?
pins: 1 AC/L, 2 AC/N, 3 DC/+, 4 DC/-

## X2016WRS-06-9TSW
designator CN?
BOM_Manufacturer: XKB Enterprise; Contributor: LCSC; BOM_Supplier: LCSC; BOM_Supplier Part: C519172; BOM_Manufacturer Part: X2016WRS-06-9TSW; BOM_JLCPCB Part Class: Extended Part; spicePre: C; spiceSymbolName: X2016WRS-06-9TSW
footprint CONN-SMD_X2016WRS-06-9TSW
pins: 1, 2, 3, 4, 5, 6, 7, 8

## XH2.54-2PS
designator P?
存货编码: 1120201011; 序号: 1265; 存货名称: 插装连接器; 规格型号: XH,公头,2P,2.54mm,S; 主计量单位名称: 个; 安全库存: 600; 旧编码: 010402005; 旧规格型号: 公头 XH-2.54mm-2PS; LatestRevisionDate: 17-Jul-2002; LatestRevisionNote: Re-released for DXP Platform.; Publisher: Altium Limited; Value: XH2.54-2PS
signal-integrity model Connector
footprint XH2.54_2P_V
pins: 1, 2

## 功率电感
designator L??, comment SWPA6045S6R8MT
footprint SDRH6D45
pins: 1, 2

## 发光二极管
designator D?
footprint LED0603
pins: 1, 2

## 按键
designator SW?, comment K2-1808UN-A3SW-01
BOM_Manufacturer: Korean Hroparts Elec; Contributor: LCSC; BOM_Supplier: LCSC; BOM_Supplier Part: C502306; BOM_Manufacturer Part: K2-1808UN-A3SW-01; spicePre: S; spiceSymbolName: K2-1808UN-A3SW-01
footprint KEY-SMD_4P-L4.2-W3.25-P2.15-TL
pins: 1, 2, 3, 4

## 插装插针 2*16P_2.0mm
designator P?, comment 2*16P_2.0mm
序号: 41; 存货编码: 1120201031; 存货名称: 插装插针; 规格型号: 双排,2*40P,2.0mm,S; 安全库存: 463.00; 旧编码: 010402072; LatestRevisionDate: 17-Jul-2002; LatestRevisionNote: Re-released for DXP Platform.; Publisher: Altium Limited; Value: 2*16P_2.0mm
signal-integrity model Connector
footprint HEADER16*2_2.0
pins: 1, 2, 3, 4, 5, 6, 7, 8, 9, 10, 11, 12, 13, 14, 15, 16, 17, 18, 19, 20, 21, 22, 23, 24, 25, 26, 27, 28, 29, 30, 31, 32